# Altium integrated library Renesas Microprocessor SuperH.IntLib: 433 symbols (part 6 of 62)
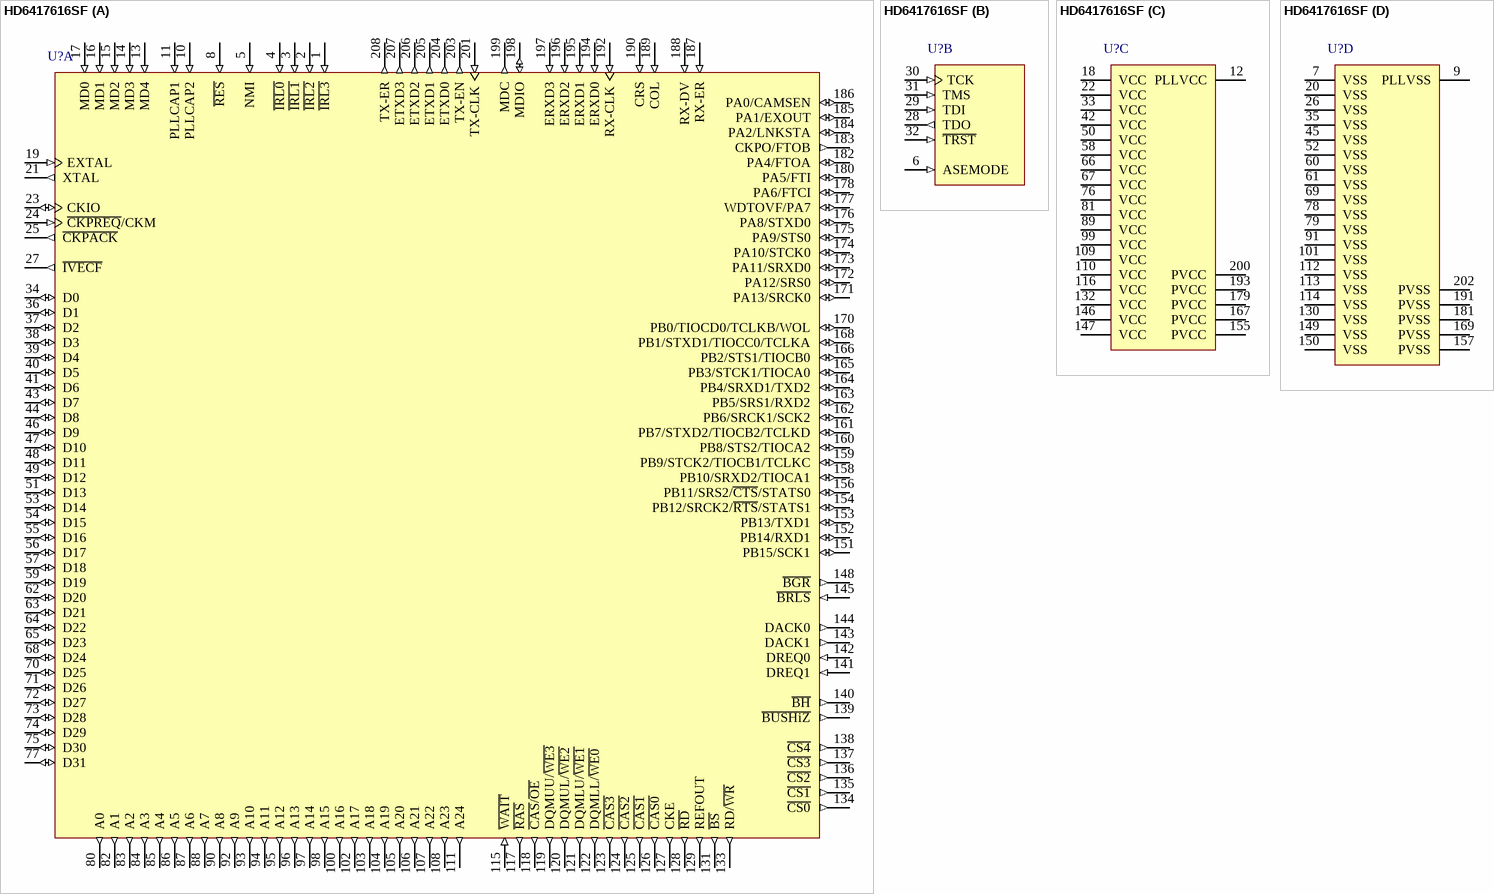
[diagram p282: symbol HD6417616SF]

## HD6417616SF
designator U?
32-Bit RISC Microcomputer, SH-Ether Series, SH2-DSP core, 62.5MHz, 8K RAM, 208-pin PLQFP, -20 to 75°C; Published: 28-Aug-2009; DatasheetVersion: Rev.2.00, Mar-2006; PackageVersion: Sep-2005; PackageReference: PLQP0208KA-A; Publisher: Altium Limited; PackageDescription: 208-Pin Plastic Low Profile QFP, 28 x 28 x 1.4 mm Body, 0.5 mm Pitch; Supplier 1: Digi-Key; Supplier Part Number 1: HD6417616SF-ND; Code_JEITA: P-LQFP208-28x28-0.50; ComponentLink1Description: Manufacturer Link; ComponentLink1URL: http://www.renesas.com/fmwk.jsp?cnt=sh7616_root.jsp&fp=/products/mpumcu/superh_family/shether_series/sh7616_group/; ComponentLink2Description: Datasheet; ComponentLink2URL: http://documentation.renesas.com/eng/products/mpumcu/rej09b0292_sh7616hm.pdf; ComponentLink3Description: Packaging Specification; ComponentLink3URL: http://sg.renesas.com/media/products/common_info/package/pdf/ic/code/plqp0208ka_a.pdf
footprint PLQP0208KA-A_N (Shrink QFP, 208-Leads, Body 28x28mm, Pitch 0.5mm, IPC Medium Density)
footprint PLQP0208KA-A_L (Shrink QFP, 208-Leads, Body 28x28mm, Pitch 0.5mm, IPC High Density)
footprint PLQP0208KA-A_M (Shrink QFP, 208-Leads, Body 28x28mm, Pitch 0.5mm, IPC Low Density)
part A pins: 1 ~{IRL3} (in), 2 ~{IRL2} (in), 3 ~{IRL1} (in), 4 ~{IRL0} (in), 5 NMI (in), 8 ~{RES} (in), 10 PLLCAP2 (in), 11 PLLCAP1 (in), 13 MD4 (in), 14 MD3 (in), 15 MD2 (in), 16 MD1 (in), 17 MD0 (in), 19 EXTAL (in), 21 XTAL (out), 23 CKIO (io), 24 ~{CKPREQ}/CKM (in), 25 ~{CKPACK} (out), 27 ~{IVECF} (out), 34 D0 (io), 36 D1 (io), 37 D2 (io), 38 D3 (io), 39 D4 (io), 40 D5 (io), 41 D6 (io), 43 D7 (io), 44 D8 (io), 46 D9 (io), 47 D10 (io), 48 D11 (io), 49 D12 (io), 51 D13 (io), 53 D14 (io), 54 D15 (io), 55 D16 (io), 56 D17 (io), 57 D18 (io), 59 D19 (io), 62 D20 (io), 63 D21 (io), 64 D22 (io), 65 D23 (io), 68 D24 (io), 70 D25 (io), 71 D26 (io), 72 D27 (io), 73 D28 (io), 74 D29 (io), 75 D30 (io), 77 D31 (io), 80 A0 (out), 82 A1 (out), 83 A2 (out), 84 A3 (out), 85 A4 (out), 86 A5 (out), 87 A6 (out), 88 A7 (out), 90 A8 (out), 92 A9 (out), 93 A10 (out), 94 A11 (out), 95 A12 (out), 96 A13 (out), 97 A14 (out), 98 A15 (out), 100 A16 (out), 102 A17 (out), 103 A18 (out), 104 A19 (out), 105 A20 (out), 106 A21 (out), 107 A22 (out), 108 A23 (out), 111 A24 (out), 115 ~{WAIT} (in), 117 ~{RAS} (out), 118 ~{CAS}/~{OE} (out), 119 DQMUU/~{WE3} (out), 120 DQMUL/~{WE2} (out), 121 DQMLU/~{WE1} (out), 122 DQMLL/~{WE0} (out), 123 ~{CAS3} (out), 124 ~{CAS2} (out), 125 ~{CAS1} (out), 126 ~{CAS0} (out), 127 CKE (out), 128 ~{RD} (out), 129 REFOUT (out), 131 ~{BS} (out), 133 RD/~{WR} (out), 134 ~{CS0} (out), 135 ~{CS1} (out), 136 ~{CS2} (out), 137 ~{CS3} (out), 138 ~{CS4} (out), 139 ~{BUSHiZ} (out), 140 ~{BH} (out), 141 DREQ1 (in), 142 DREQ0 (in), 143 DACK1 (out), 144 DACK0 (out), 145 ~{BRLS} (in), 148 ~{BGR} (out), 151 PB15/SCK1 (io), 152 PB14/RXD1 (io), 153 PB13/TXD1 (io), 154 PB12/SRCK2/~{RTS}/STATS1 (io), 156 PB11/SRS2/~{CTS}/STATS0 (io), 158 PB10/SRXD2/TIOCA1 (io), 159 PB9/STCK2/TIOCB1/TCLKC (io), 160 PB8/STS2/TIOCA2 (io), 161 PB7/STXD2/TIOCB2/TCLKD (io), 162 PB6/SRCK1/SCK2 (io), 163 PB5/SRS1/RXD2 (io), 164 PB4/SRXD1/TXD2 (io), 165 PB3/STCK1/TIOCA0 (io), 166 PB2/STS1/TIOCB0 (io), 168 PB1/STXD1/TIOCC0/TCLKA (io), 170 PB0/TIOCD0/TCLKB/WOL (io), 171 PA13/SRCK0 (io), 172 PA12/SRS0 (io), 173 PA11/SRXD0 (io), 174 PA10/STCK0 (io), 175 PA9/STS0 (io), 176 PA8/STXD0 (io), 177 WDTOVF/PA7 (io), 178 PA6/FTCI (io), 180 PA5/FTI (io), 182 PA4/FTOA (io), 183 CKPO/FTOB (out), 184 PA2/LNKSTA (io), 185 PA1/EXOUT (io), 186 PA0/CAMSEN (io), 187 RX-ER (in), 188 RX-DV (in), 189 COL (in), 190 CRS (in), 192 RX-CLK (in), 194 ERXD0 (in), 195 ERXD1 (in), 196 ERXD2 (in), 197 ERXD3 (in), 198 MDIO (io), 199 MDC (out), 201 TX-CLK (in), 203 TX-EN (out), 204 ETXD0 (out), 205 ETXD1 (out), 206 ETXD2 (out), 207 ETXD3 (out), 208 TX-ER (out)
part B pins: 6 ASEMODE (in), 28 TDO (out), 29 TDI (in), 30 TCK (in), 31 TMS (in), 32 ~{TRST} (in)
part C pins: 12 PLLVCC (power), 18 VCC (power), 22 VCC (power), 33 VCC (power), 42 VCC (power), 50 VCC (power), 58 VCC (power), 66 VCC (power), 67 VCC (power), 76 VCC (power), 81 VCC (power), 89 VCC (power), 99 VCC (power), 109 VCC (power), 110 VCC (power), 116 VCC (power), 132 VCC (power), 146 VCC (power), 147 VCC (power), 155 PVCC (power), 167 PVCC (power), 179 PVCC (power), 193 PVCC (power), 200 PVCC (power)
part D pins: 7 VSS (power), 9 PLLVSS (power), 20 VSS (power), 26 VSS (power), 35 VSS (power), 45 VSS (power), 52 VSS (power), 60 VSS (power), 61 VSS (power), 69 VSS (power), 78 VSS (power), 79 VSS (power), 91 VSS (power), 101 VSS (power), 112 VSS (power), 113 VSS (power), 114 VSS (power), 130 VSS (power), 149 VSS (power), 150 VSS (power), 157 PVSS (power), 169 PVSS (power), 181 PVSS (power), 191 PVSS (power), 202 PVSS (power)

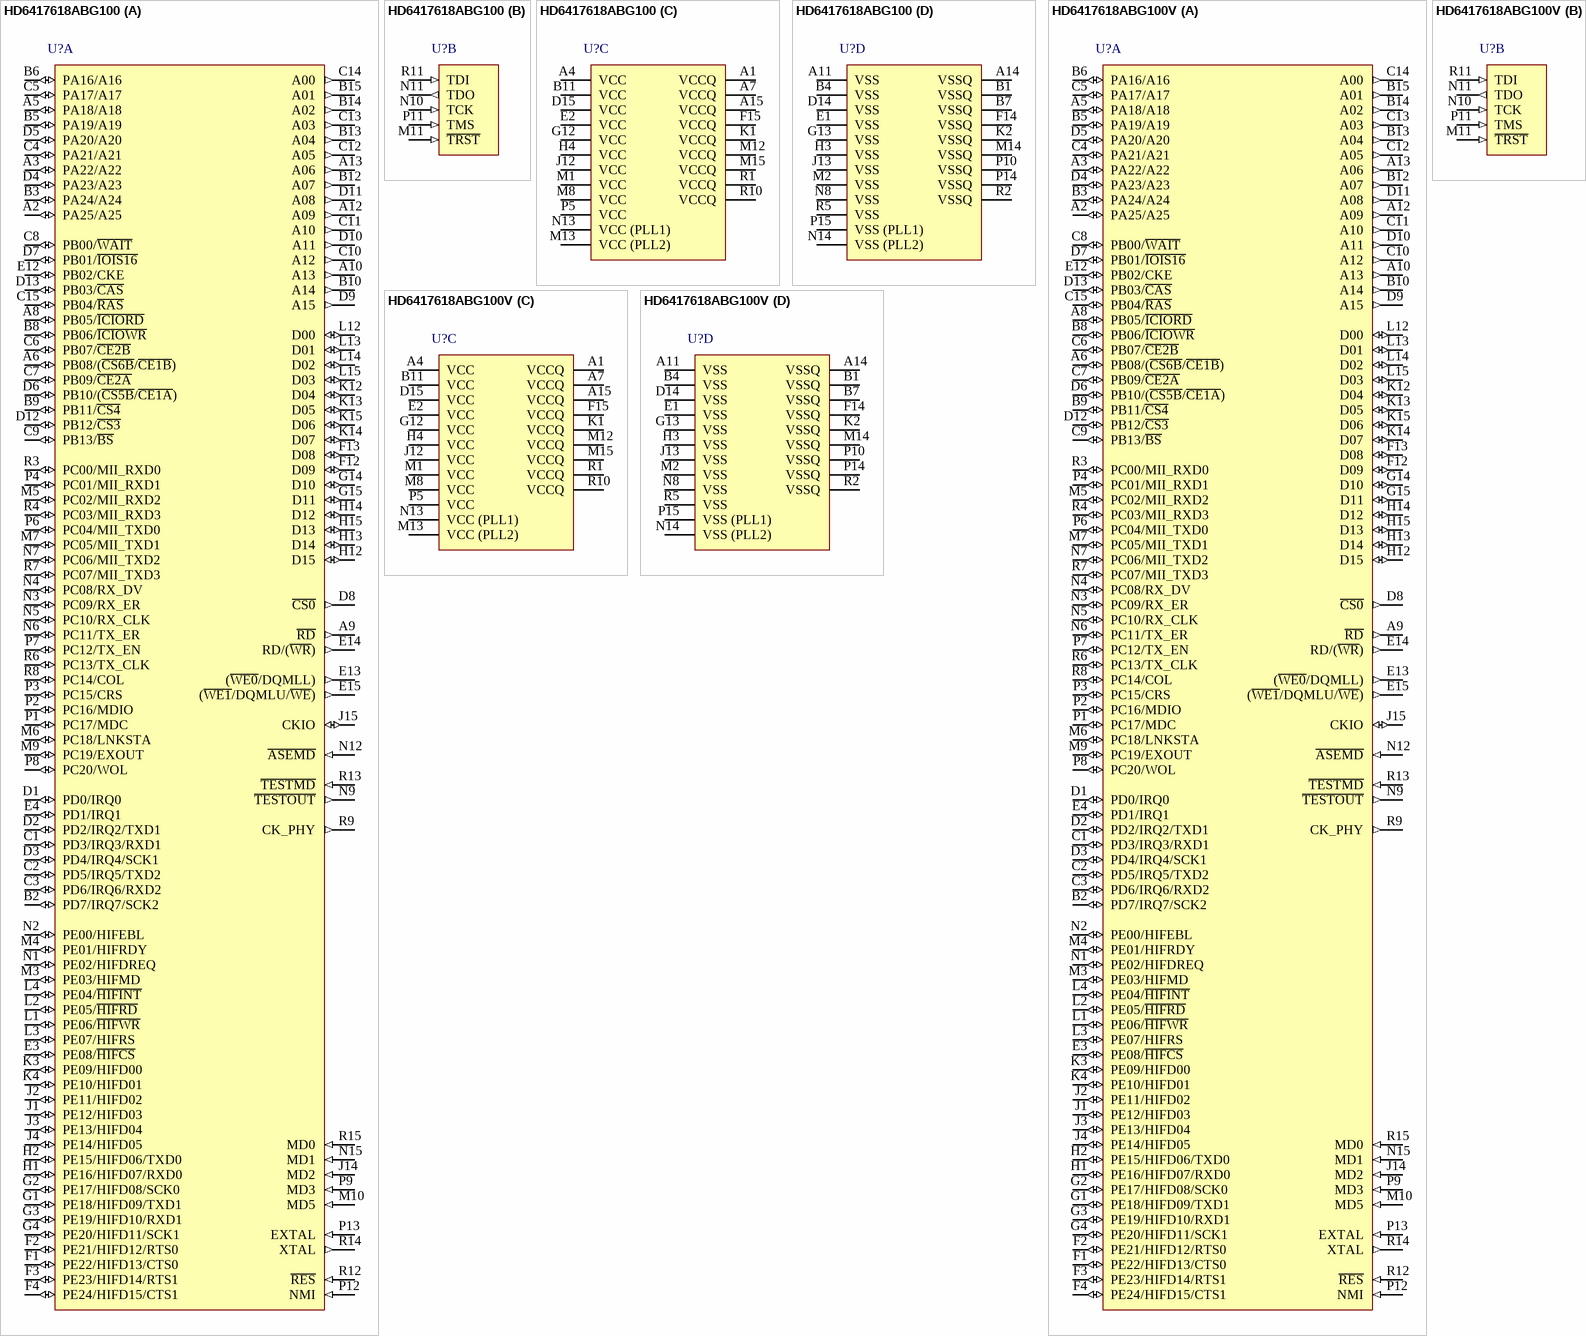
[diagram p20: symbols HD6417618ABG100 to HD6417618ABG100V]

## HD6417618ABG100
designator U?
32-Bit RISC Microcomputer, SH-Ether Series, SH-2 core, 100MHz, 4K RAM, PLBG0176GA-A (BP-176) Package, -20 to 75°C; Published: 28-Aug-2009; DatasheetVersion: Rev.6.00, Jun-2007; PackageVersion: Apr-2006; PackageReference: PLBG0176GA-A; Publisher: Altium Limited; PackageDescription: 176-Ball Plastic Low Profile Fine-Pitch BGA, 13 x 13 mm Body, 0.8 mm Pitch; Code_JEITA: P-LFBGA176-13x13-0.80; ComponentLink1Description: Manufacturer Link; ComponentLink1URL: http://www.renesas.com/fmwk.jsp?cnt=sh7618_root.jsp&fp=/products/mpumcu/superh_family/shether_series/sh7618_group/; ComponentLink2Description: Datasheet; ComponentLink2URL: http://documentation.renesas.com/eng/products/mpumcu/rej09b0131_sh7618.pdf; ComponentLink3Description: Packaging Specification; ComponentLink3URL: http://sg.renesas.com/media/products/common_info/package/pdf/ic/code/plbg0176ga_a.pdf
footprint PLBG0176GA-A (BGA, 176-Leads, Body 13x13mm, Pitch 0.8mm)
part A pins: A2 PA25/A25 (io), A3 PA22/A22 (io), A5 PA18/A18 (io), A6 PB08/(~{CS6B}/~{CE1B}) (io), A8 PB05/~{ICIORD} (io), A9 ~{RD} (out), A10 A13 (out), A12 A09 (out), A13 A06 (out), B2 PD7/IRQ7/SCK2 (io), B3 PA24/A24 (io), B5 PA19/A19 (io), B6 PA16/A16 (io), B8 PB06/~{ICIOWR} (io), B9 PB11/~{CS4} (io), B10 A14 (out), B12 A07 (out), B13 A04 (out), B14 A02 (out), B15 A01 (out), C1 PD3/IRQ3/RXD1 (io), C2 PD5/IRQ5/TXD2 (io), C3 PD6/IRQ6/RXD2 (io), C4 PA21/A21 (io), C5 PA17/A17 (io), C6 PB07/~{CE2B} (io), C7 PB09/~{CE2A} (io), C8 PB00/~{WAIT} (io), C9 PB13/~{BS} (io), C10 A12 (out), C11 A10 (out), C12 A05 (out), C13 A03 (out), C14 A00 (out), C15 PB04/~{RAS} (io), D1 PD0/IRQ0 (io), D2 PD2/IRQ2/TXD1 (io), D3 PD4/IRQ4/SCK1 (io), D4 PA23/A23 (io), D5 PA20/A20 (io), D6 PB10/(~{CS5B}/~{CE1A}) (io), D7 PB01/~{IOIS16} (io), D8 ~{CS0} (out), D9 A15 (out), D10 A11 (out), D11 A08 (out), D12 PB12/~{CS3} (io), D13 PB03/~{CAS} (io), E3 PE08/~{HIFCS} (io), E4 PD1/IRQ1 (io), E12 PB02/CKE (io), E13 (~{WE0}/DQMLL) (out), E14 RD/(~{WR}) (out), E15 (~{WE1}/DQMLU/~{WE}) (out), F1 PE22/HIFD13/CTS0 (io), F2 PE21/HIFD12/RTS0 (io), F3 PE23/HIFD14/RTS1 (io), F4 PE24/HIFD15/CTS1 (io), F12 D09 (io), F13 D08 (io), G1 PE18/HIFD09/TXD1 (io), G2 PE17/HIFD08/SCK0 (io), G3 PE19/HIFD10/RXD1 (io), G4 PE20/HIFD11/SCK1 (io), G14 D10 (io), G15 D11 (io), H1 PE16/HIFD07/RXD0 (io), H2 PE15/HIFD06/TXD0 (io), H12 D15 (io), H13 D14 (io), H14 D12 (io), H15 D13 (io), J1 PE12/HIFD03 (io), J2 PE11/HIFD02 (io), J3 PE13/HIFD04 (io), J4 PE14/HIFD05 (io), J14 MD2 (in), J15 CKIO (io), K3 PE09/HIFD00 (io), K4 PE10/HIFD01 (io), K12 D04 (io), K13 D05 (io), K14 D07 (io), K15 D06 (io), L1 PE06/~{HIFWR} (io), L2 PE05/~{HIFRD} (io), L3 PE07/HIFRS (io), L4 PE04/~{HIFINT} (io), L12 D00 (io), L13 D01 (io), L14 D02 (io), L15 D03 (io), M3 PE03/HIFMD (io), M4 PE01/HIFRDY (io), M5 PC02/MII_RXD2 (io), M6 PC18/LNKSTA (io), M7 PC05/MII_TXD1 (io), M9 PC19/EXOUT (io), M10 MD5 (in), N1 PE02/HIFDREQ (io), N2 PE00/HIFEBL (io), N3 PC09/RX_ER (io), N4 PC08/RX_DV (io), N5 PC10/RX_CLK (io), N6 PC11/TX_ER (io), N7 PC06/MII_TXD2 (io), N9 ~{TESTOUT} (out), N12 ~{ASEMD} (in), N15 MD1 (in), P1 PC17/MDC (io), P2 PC16/MDIO (io), P3 PC15/CRS (io), P4 PC01/MII_RXD1 (io), P6 PC04/MII_TXD0 (io), P7 PC12/TX_EN (io), P8 PC20/WOL (io), P9 MD3 (in), P12 NMI (in), P13 EXTAL (in), R3 PC00/MII_RXD0 (io), R4 PC03/MII_RXD3 (io), R6 PC13/TX_CLK (io), R7 PC07/MII_TXD3 (io), R8 PC14/COL (io), R9 CK_PHY (out), R12 ~{RES} (in), R13 ~{TESTMD} (in), R14 XTAL (out), R15 MD0 (in)
part B pins: M11 ~{TRST} (in), N10 TCK (in), N11 TDO (out), P11 TMS (in), R11 TDI (in)
part C pins: A1 VCCQ (power), A4 VCC (power), A7 VCCQ (power), A15 VCCQ (power), B11 VCC (power), D15 VCC (power), E2 VCC (power), F15 VCCQ (power), G12 VCC (power), H4 VCC (power), J12 VCC (power), K1 VCCQ (power), M1 VCC (power), M8 VCC (power), M12 VCCQ (power), M13 VCC (PLL2) (power), M15 VCCQ (power), N13 VCC (PLL1) (power), P5 VCC (power), R1 VCCQ (power), R10 VCCQ (power)
part D pins: A11 VSS (power), A14 VSSQ (power), B1 VSSQ (power), B4 VSS (power), B7 VSSQ (power), D14 VSS (power), E1 VSS (power), F14 VSSQ (power), G13 VSS (power), H3 VSS (power), J13 VSS (power), K2 VSSQ (power), M2 VSS (power), M14 VSSQ (power), N8 VSS (power), N14 VSS (PLL2) (power), P10 VSSQ (power), P14 VSSQ (power), P15 VSS (PLL1) (power), R2 VSSQ (power), R5 VSS (power)

## HD6417618ABG100V
designator U?
32-Bit RISC Microcomputer, SH-Ether Series, SH-2 core, 100MHz, 4K RAM, PLBG0176GA-A (BP-176V) Package, -20 to 75°C; Published: 28-Aug-2009; DatasheetVersion: Rev.6.00, Jun-2007; PackageVersion: Apr-2006; PackageReference: PLBG0176GA-A; Publisher: Altium Limited; PackageDescription: 176-Ball Plastic Low Profile Fine-Pitch BGA, 13 x 13 mm Body, 0.8 mm Pitch; Code_JEITA: P-LFBGA176-13x13-0.80; ComponentLink1Description: Manufacturer Link; ComponentLink1URL: http://www.renesas.com/fmwk.jsp?cnt=sh7618_root.jsp&fp=/products/mpumcu/superh_family/shether_series/sh7618_group/; ComponentLink2Description: Datasheet; ComponentLink2URL: http://documentation.renesas.com/eng/products/mpumcu/rej09b0131_sh7618.pdf; ComponentLink3Description: Packaging Specification; ComponentLink3URL: http://sg.renesas.com/media/products/common_info/package/pdf/ic/code/plbg0176ga_a.pdf
footprint PLBG0176GA-A (BGA, 176-Leads, Body 13x13mm, Pitch 0.8mm)
part A pins: A2 PA25/A25 (io), A3 PA22/A22 (io), A5 PA18/A18 (io), A6 PB08/(~{CS6B}/~{CE1B}) (io), A8 PB05/~{ICIORD} (io), A9 ~{RD} (out), A10 A13 (out), A12 A09 (out), A13 A06 (out), B2 PD7/IRQ7/SCK2 (io), B3 PA24/A24 (io), B5 PA19/A19 (io), B6 PA16/A16 (io), B8 PB06/~{ICIOWR} (io), B9 PB11/~{CS4} (io), B10 A14 (out), B12 A07 (out), B13 A04 (out), B14 A02 (out), B15 A01 (out), C1 PD3/IRQ3/RXD1 (io), C2 PD5/IRQ5/TXD2 (io), C3 PD6/IRQ6/RXD2 (io), C4 PA21/A21 (io), C5 PA17/A17 (io), C6 PB07/~{CE2B} (io), C7 PB09/~{CE2A} (io), C8 PB00/~{WAIT} (io), C9 PB13/~{BS} (io), C10 A12 (out), C11 A10 (out), C12 A05 (out), C13 A03 (out), C14 A00 (out), C15 PB04/~{RAS} (io), D1 PD0/IRQ0 (io), D2 PD2/IRQ2/TXD1 (io), D3 PD4/IRQ4/SCK1 (io), D4 PA23/A23 (io), D5 PA20/A20 (io), D6 PB10/(~{CS5B}/~{CE1A}) (io), D7 PB01/~{IOIS16} (io), D8 ~{CS0} (out), D9 A15 (out), D10 A11 (out), D11 A08 (out), D12 PB12/~{CS3} (io), D13 PB03/~{CAS} (io), E3 PE08/~{HIFCS} (io), E4 PD1/IRQ1 (io), E12 PB02/CKE (io), E13 (~{WE0}/DQMLL) (out), E14 RD/(~{WR}) (out), E15 (~{WE1}/DQMLU/~{WE}) (out), F1 PE22/HIFD13/CTS0 (io), F2 PE21/HIFD12/RTS0 (io), F3 PE23/HIFD14/RTS1 (io), F4 PE24/HIFD15/CTS1 (io), F12 D09 (io), F13 D08 (io), G1 PE18/HIFD09/TXD1 (io), G2 PE17/HIFD08/SCK0 (io), G3 PE19/HIFD10/RXD1 (io), G4 PE20/HIFD11/SCK1 (io), G14 D10 (io), G15 D11 (io), H1 PE16/HIFD07/RXD0 (io), H2 PE15/HIFD06/TXD0 (io), H12 D15 (io), H13 D14 (io), H14 D12 (io), H15 D13 (io), J1 PE12/HIFD03 (io), J2 PE11/HIFD02 (io), J3 PE13/HIFD04 (io), J4 PE14/HIFD05 (io), J14 MD2 (in), J15 CKIO (io), K3 PE09/HIFD00 (io), K4 PE10/HIFD01 (io), K12 D04 (io), K13 D05 (io), K14 D07 (io), K15 D06 (io), L1 PE06/~{HIFWR} (io), L2 PE05/~{HIFRD} (io), L3 PE07/HIFRS (io), L4 PE04/~{HIFINT} (io), L12 D00 (io), L13 D01 (io), L14 D02 (io), L15 D03 (io), M3 PE03/HIFMD (io), M4 PE01/HIFRDY (io), M5 PC02/MII_RXD2 (io), M6 PC18/LNKSTA (io), M7 PC05/MII_TXD1 (io), M9 PC19/EXOUT (io), M10 MD5 (in), N1 PE02/HIFDREQ (io), N2 PE00/HIFEBL (io), N3 PC09/RX_ER (io), N4 PC08/RX_DV (io), N5 PC10/RX_CLK (io), N6 PC11/TX_ER (io), N7 PC06/MII_TXD2 (io), N9 ~{TESTOUT} (out), N12 ~{ASEMD} (in), N15 MD1 (in), P1 PC17/MDC (io), P2 PC16/MDIO (io), P3 PC15/CRS (io), P4 PC01/MII_RXD1 (io), P6 PC04/MII_TXD0 (io), P7 PC12/TX_EN (io), P8 PC20/WOL (io), P9 MD3 (in), P12 NMI (in), P13 EXTAL (in), R3 PC00/MII_RXD0 (io), R4 PC03/MII_RXD3 (io), R6 PC13/TX_CLK (io), R7 PC07/MII_TXD3 (io), R8 PC14/COL (io), R9 CK_PHY (out), R12 ~{RES} (in), R13 ~{TESTMD} (in), R14 XTAL (out), R15 MD0 (in)
part B pins: M11 ~{TRST} (in), N10 TCK (in), N11 TDO (out), P11 TMS (in), R11 TDI (in)
part C pins: A1 VCCQ (power), A4 VCC (power), A7 VCCQ (power), A15 VCCQ (power), B11 VCC (power), D15 VCC (power), E2 VCC (power), F15 VCCQ (power), G12 VCC (power), H4 VCC (power), J12 VCC (power), K1 VCCQ (power), M1 VCC (power), M8 VCC (power), M12 VCCQ (power), M13 VCC (PLL2) (power), M15 VCCQ (power), N13 VCC (PLL1) (power), P5 VCC (power), R1 VCCQ (power), R10 VCCQ (power)
part D pins: A11 VSS (power), A14 VSSQ (power), B1 VSSQ (power), B4 VSS (power), B7 VSSQ (power), D14 VSS (power), E1 VSS (power), F14 VSSQ (power), G13 VSS (power), H3 VSS (power), J13 VSS (power), K2 VSSQ (power), M2 VSS (power), M14 VSSQ (power), N8 VSS (power), N14 VSS (PLL2) (power), P10 VSSQ (power), P14 VSSQ (power), P15 VSS (PLL1) (power), R2 VSSQ (power), R5 VSS (power)

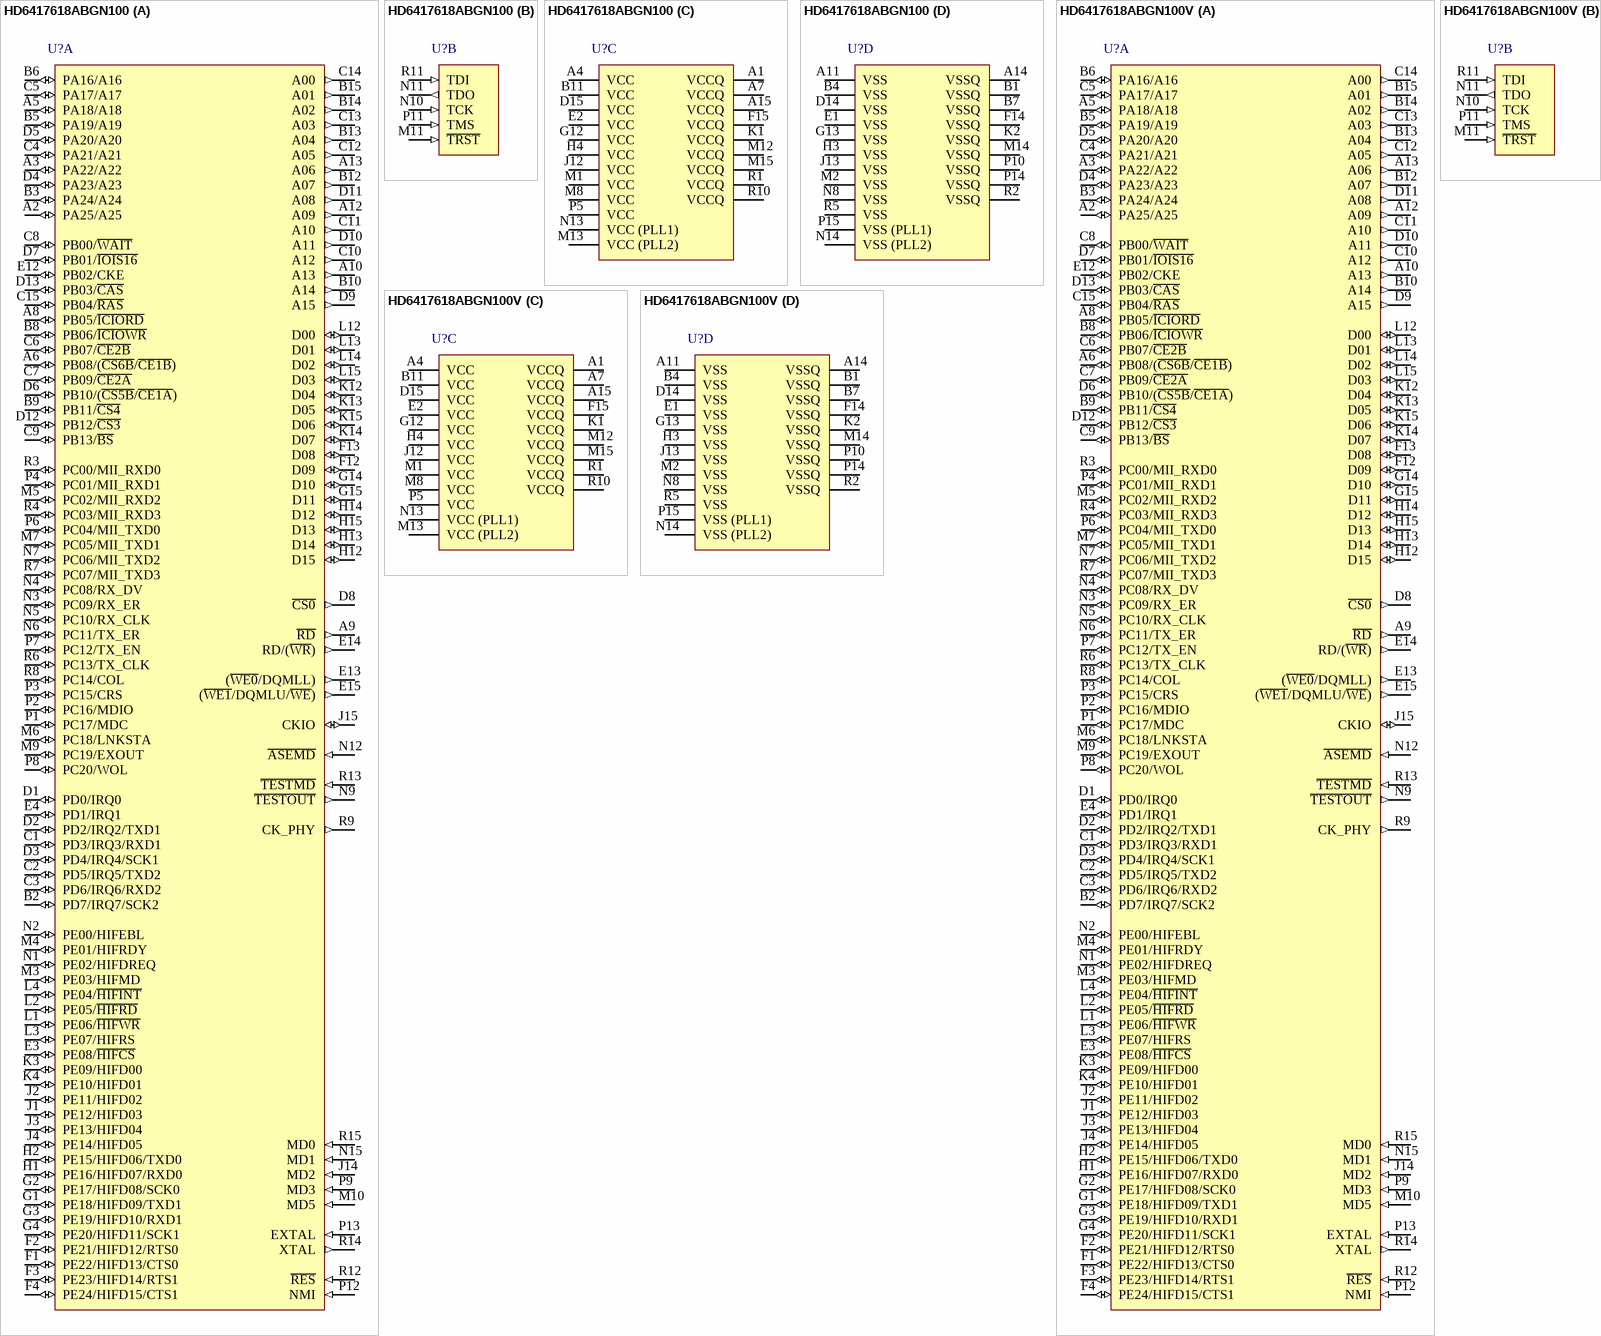
[diagram p21: symbols HD6417618ABGN100 to HD6417618ABGN100V]

## HD6417618ABGN100
designator U?
32-Bit RISC Microcomputer, SH-Ether Series, SH-2 core, 100MHz, 4K RAM, PLBG0176GA-A (BP-176) Package, -20 to 75°C; Published: 28-Aug-2009; DatasheetVersion: Rev.6.00, Jun-2007; PackageVersion: Apr-2006; PackageReference: PLBG0176GA-A; Publisher: Altium Limited; PackageDescription: 176-Ball Plastic Low Profile Fine-Pitch BGA, 13 x 13 mm Body, 0.8 mm Pitch; Code_JEITA: P-LFBGA176-13x13-0.80; ComponentLink1Description: Manufacturer Link; ComponentLink1URL: http://www.renesas.com/fmwk.jsp?cnt=sh7618_root.jsp&fp=/products/mpumcu/superh_family/shether_series/sh7618_group/; ComponentLink2Description: Datasheet; ComponentLink2URL: http://documentation.renesas.com/eng/products/mpumcu/rej09b0131_sh7618.pdf; ComponentLink3Description: Packaging Specification; ComponentLink3URL: http://sg.renesas.com/media/products/common_info/package/pdf/ic/code/plbg0176ga_a.pdf
footprint PLBG0176GA-A (BGA, 176-Leads, Body 13x13mm, Pitch 0.8mm)
part A pins: A2 PA25/A25 (io), A3 PA22/A22 (io), A5 PA18/A18 (io), A6 PB08/(~{CS6B}/~{CE1B}) (io), A8 PB05/~{ICIORD} (io), A9 ~{RD} (out), A10 A13 (out), A12 A09 (out), A13 A06 (out), B2 PD7/IRQ7/SCK2 (io), B3 PA24/A24 (io), B5 PA19/A19 (io), B6 PA16/A16 (io), B8 PB06/~{ICIOWR} (io), B9 PB11/~{CS4} (io), B10 A14 (out), B12 A07 (out), B13 A04 (out), B14 A02 (out), B15 A01 (out), C1 PD3/IRQ3/RXD1 (io), C2 PD5/IRQ5/TXD2 (io), C3 PD6/IRQ6/RXD2 (io), C4 PA21/A21 (io), C5 PA17/A17 (io), C6 PB07/~{CE2B} (io), C7 PB09/~{CE2A} (io), C8 PB00/~{WAIT} (io), C9 PB13/~{BS} (io), C10 A12 (out), C11 A10 (out), C12 A05 (out), C13 A03 (out), C14 A00 (out), C15 PB04/~{RAS} (io), D1 PD0/IRQ0 (io), D2 PD2/IRQ2/TXD1 (io), D3 PD4/IRQ4/SCK1 (io), D4 PA23/A23 (io), D5 PA20/A20 (io), D6 PB10/(~{CS5B}/~{CE1A}) (io), D7 PB01/~{IOIS16} (io), D8 ~{CS0} (out), D9 A15 (out), D10 A11 (out), D11 A08 (out), D12 PB12/~{CS3} (io), D13 PB03/~{CAS} (io), E3 PE08/~{HIFCS} (io), E4 PD1/IRQ1 (io), E12 PB02/CKE (io), E13 (~{WE0}/DQMLL) (out), E14 RD/(~{WR}) (out), E15 (~{WE1}/DQMLU/~{WE}) (out), F1 PE22/HIFD13/CTS0 (io), F2 PE21/HIFD12/RTS0 (io), F3 PE23/HIFD14/RTS1 (io), F4 PE24/HIFD15/CTS1 (io), F12 D09 (io), F13 D08 (io), G1 PE18/HIFD09/TXD1 (io), G2 PE17/HIFD08/SCK0 (io), G3 PE19/HIFD10/RXD1 (io), G4 PE20/HIFD11/SCK1 (io), G14 D10 (io), G15 D11 (io), H1 PE16/HIFD07/RXD0 (io), H2 PE15/HIFD06/TXD0 (io), H12 D15 (io), H13 D14 (io), H14 D12 (io), H15 D13 (io), J1 PE12/HIFD03 (io), J2 PE11/HIFD02 (io), J3 PE13/HIFD04 (io), J4 PE14/HIFD05 (io), J14 MD2 (in), J15 CKIO (io), K3 PE09/HIFD00 (io), K4 PE10/HIFD01 (io), K12 D04 (io), K13 D05 (io), K14 D07 (io), K15 D06 (io), L1 PE06/~{HIFWR} (io), L2 PE05/~{HIFRD} (io), L3 PE07/HIFRS (io), L4 PE04/~{HIFINT} (io), L12 D00 (io), L13 D01 (io), L14 D02 (io), L15 D03 (io), M3 PE03/HIFMD (io), M4 PE01/HIFRDY (io), M5 PC02/MII_RXD2 (io), M6 PC18/LNKSTA (io), M7 PC05/MII_TXD1 (io), M9 PC19/EXOUT (io), M10 MD5 (in), N1 PE02/HIFDREQ (io), N2 PE00/HIFEBL (io), N3 PC09/RX_ER (io), N4 PC08/RX_DV (io), N5 PC10/RX_CLK (io), N6 PC11/TX_ER (io), N7 PC06/MII_TXD2 (io), N9 ~{TESTOUT} (out), N12 ~{ASEMD} (in), N15 MD1 (in), P1 PC17/MDC (io), P2 PC16/MDIO (io), P3 PC15/CRS (io), P4 PC01/MII_RXD1 (io), P6 PC04/MII_TXD0 (io), P7 PC12/TX_EN (io), P8 PC20/WOL (io), P9 MD3 (in), P12 NMI (in), P13 EXTAL (in), R3 PC00/MII_RXD0 (io), R4 PC03/MII_RXD3 (io), R6 PC13/TX_CLK (io), R7 PC07/MII_TXD3 (io), R8 PC14/COL (io), R9 CK_PHY (out), R12 ~{RES} (in), R13 ~{TESTMD} (in), R14 XTAL (out), R15 MD0 (in)
part B pins: M11 ~{TRST} (in), N10 TCK (in), N11 TDO (out), P11 TMS (in), R11 TDI (in)
part C pins: A1 VCCQ (power), A4 VCC (power), A7 VCCQ (power), A15 VCCQ (power), B11 VCC (power), D15 VCC (power), E2 VCC (power), F15 VCCQ (power), G12 VCC (power), H4 VCC (power), J12 VCC (power), K1 VCCQ (power), M1 VCC (power), M8 VCC (power), M12 VCCQ (power), M13 VCC (PLL2) (power), M15 VCCQ (power), N13 VCC (PLL1) (power), P5 VCC (power), R1 VCCQ (power), R10 VCCQ (power)
part D pins: A11 VSS (power), A14 VSSQ (power), B1 VSSQ (power), B4 VSS (power), B7 VSSQ (power), D14 VSS (power), E1 VSS (power), F14 VSSQ (power), G13 VSS (power), H3 VSS (power), J13 VSS (power), K2 VSSQ (power), M2 VSS (power), M14 VSSQ (power), N8 VSS (power), N14 VSS (PLL2) (power), P10 VSSQ (power), P14 VSSQ (power), P15 VSS (PLL1) (power), R2 VSSQ (power), R5 VSS (power)

## HD6417618ABGN100V
designator U?
32-Bit RISC Microcomputer, SH-Ether Series, SH-2 core, 100MHz, 4K RAM, PLBG0176GA-A (BP-176V) Package, -20 to 75°C; Published: 28-Aug-2009; DatasheetVersion: Rev.6.00, Jun-2007; PackageVersion: Apr-2006; PackageReference: PLBG0176GA-A; Publisher: Altium Limited; PackageDescription: 176-Ball Plastic Low Profile Fine-Pitch BGA, 13 x 13 mm Body, 0.8 mm Pitch; Code_JEITA: P-LFBGA176-13x13-0.80; ComponentLink1Description: Manufacturer Link; ComponentLink1URL: http://www.renesas.com/fmwk.jsp?cnt=sh7618_root.jsp&fp=/products/mpumcu/superh_family/shether_series/sh7618_group/; ComponentLink2Description: Datasheet; ComponentLink2URL: http://documentation.renesas.com/eng/products/mpumcu/rej09b0131_sh7618.pdf; ComponentLink3Description: Packaging Specification; ComponentLink3URL: http://sg.renesas.com/media/products/common_info/package/pdf/ic/code/plbg0176ga_a.pdf
footprint PLBG0176GA-A (BGA, 176-Leads, Body 13x13mm, Pitch 0.8mm)
part A pins: A2 PA25/A25 (io), A3 PA22/A22 (io), A5 PA18/A18 (io), A6 PB08/(~{CS6B}/~{CE1B}) (io), A8 PB05/~{ICIORD} (io), A9 ~{RD} (out), A10 A13 (out), A12 A09 (out), A13 A06 (out), B2 PD7/IRQ7/SCK2 (io), B3 PA24/A24 (io), B5 PA19/A19 (io), B6 PA16/A16 (io), B8 PB06/~{ICIOWR} (io), B9 PB11/~{CS4} (io), B10 A14 (out), B12 A07 (out), B13 A04 (out), B14 A02 (out), B15 A01 (out), C1 PD3/IRQ3/RXD1 (io), C2 PD5/IRQ5/TXD2 (io), C3 PD6/IRQ6/RXD2 (io), C4 PA21/A21 (io), C5 PA17/A17 (io), C6 PB07/~{CE2B} (io), C7 PB09/~{CE2A} (io), C8 PB00/~{WAIT} (io), C9 PB13/~{BS} (io), C10 A12 (out), C11 A10 (out), C12 A05 (out), C13 A03 (out), C14 A00 (out), C15 PB04/~{RAS} (io), D1 PD0/IRQ0 (io), D2 PD2/IRQ2/TXD1 (io), D3 PD4/IRQ4/SCK1 (io), D4 PA23/A23 (io), D5 PA20/A20 (io), D6 PB10/(~{CS5B}/~{CE1A}) (io), D7 PB01/~{IOIS16} (io), D8 ~{CS0} (out), D9 A15 (out), D10 A11 (out), D11 A08 (out), D12 PB12/~{CS3} (io), D13 PB03/~{CAS} (io), E3 PE08/~{HIFCS} (io), E4 PD1/IRQ1 (io), E12 PB02/CKE (io), E13 (~{WE0}/DQMLL) (out), E14 RD/(~{WR}) (out), E15 (~{WE1}/DQMLU/~{WE}) (out), F1 PE22/HIFD13/CTS0 (io), F2 PE21/HIFD12/RTS0 (io), F3 PE23/HIFD14/RTS1 (io), F4 PE24/HIFD15/CTS1 (io), F12 D09 (io), F13 D08 (io), G1 PE18/HIFD09/TXD1 (io), G2 PE17/HIFD08/SCK0 (io), G3 PE19/HIFD10/RXD1 (io), G4 PE20/HIFD11/SCK1 (io), G14 D10 (io), G15 D11 (io), H1 PE16/HIFD07/RXD0 (io), H2 PE15/HIFD06/TXD0 (io), H12 D15 (io), H13 D14 (io), H14 D12 (io), H15 D13 (io), J1 PE12/HIFD03 (io), J2 PE11/HIFD02 (io), J3 PE13/HIFD04 (io), J4 PE14/HIFD05 (io), J14 MD2 (in), J15 CKIO (io), K3 PE09/HIFD00 (io), K4 PE10/HIFD01 (io), K12 D04 (io), K13 D05 (io), K14 D07 (io), K15 D06 (io), L1 PE06/~{HIFWR} (io), L2 PE05/~{HIFRD} (io), L3 PE07/HIFRS (io), L4 PE04/~{HIFINT} (io), L12 D00 (io), L13 D01 (io), L14 D02 (io), L15 D03 (io), M3 PE03/HIFMD (io), M4 PE01/HIFRDY (io), M5 PC02/MII_RXD2 (io), M6 PC18/LNKSTA (io), M7 PC05/MII_TXD1 (io), M9 PC19/EXOUT (io), M10 MD5 (in), N1 PE02/HIFDREQ (io), N2 PE00/HIFEBL (io), N3 PC09/RX_ER (io), N4 PC08/RX_DV (io), N5 PC10/RX_CLK (io), N6 PC11/TX_ER (io), N7 PC06/MII_TXD2 (io), N9 ~{TESTOUT} (out), N12 ~{ASEMD} (in), N15 MD1 (in), P1 PC17/MDC (io), P2 PC16/MDIO (io), P3 PC15/CRS (io), P4 PC01/MII_RXD1 (io), P6 PC04/MII_TXD0 (io), P7 PC12/TX_EN (io), P8 PC20/WOL (io), P9 MD3 (in), P12 NMI (in), P13 EXTAL (in), R3 PC00/MII_RXD0 (io), R4 PC03/MII_RXD3 (io), R6 PC13/TX_CLK (io), R7 PC07/MII_TXD3 (io), R8 PC14/COL (io), R9 CK_PHY (out), R12 ~{RES} (in), R13 ~{TESTMD} (in), R14 XTAL (out), R15 MD0 (in)
part B pins: M11 ~{TRST} (in), N10 TCK (in), N11 TDO (out), P11 TMS (in), R11 TDI (in)
part C pins: A1 VCCQ (power), A4 VCC (power), A7 VCCQ (power), A15 VCCQ (power), B11 VCC (power), D15 VCC (power), E2 VCC (power), F15 VCCQ (power), G12 VCC (power), H4 VCC (power), J12 VCC (power), K1 VCCQ (power), M1 VCC (power), M8 VCC (power), M12 VCCQ (power), M13 VCC (PLL2) (power), M15 VCCQ (power), N13 VCC (PLL1) (power), P5 VCC (power), R1 VCCQ (power), R10 VCCQ (power)
part D pins: A11 VSS (power), A14 VSSQ (power), B1 VSSQ (power), B4 VSS (power), B7 VSSQ (power), D14 VSS (power), E1 VSS (power), F14 VSSQ (power), G13 VSS (power), H3 VSS (power), J13 VSS (power), K2 VSSQ (power), M2 VSS (power), M14 VSSQ (power), N8 VSS (power), N14 VSS (PLL2) (power), P10 VSSQ (power), P14 VSSQ (power), P15 VSS (PLL1) (power), R2 VSSQ (power), R5 VSS (power)

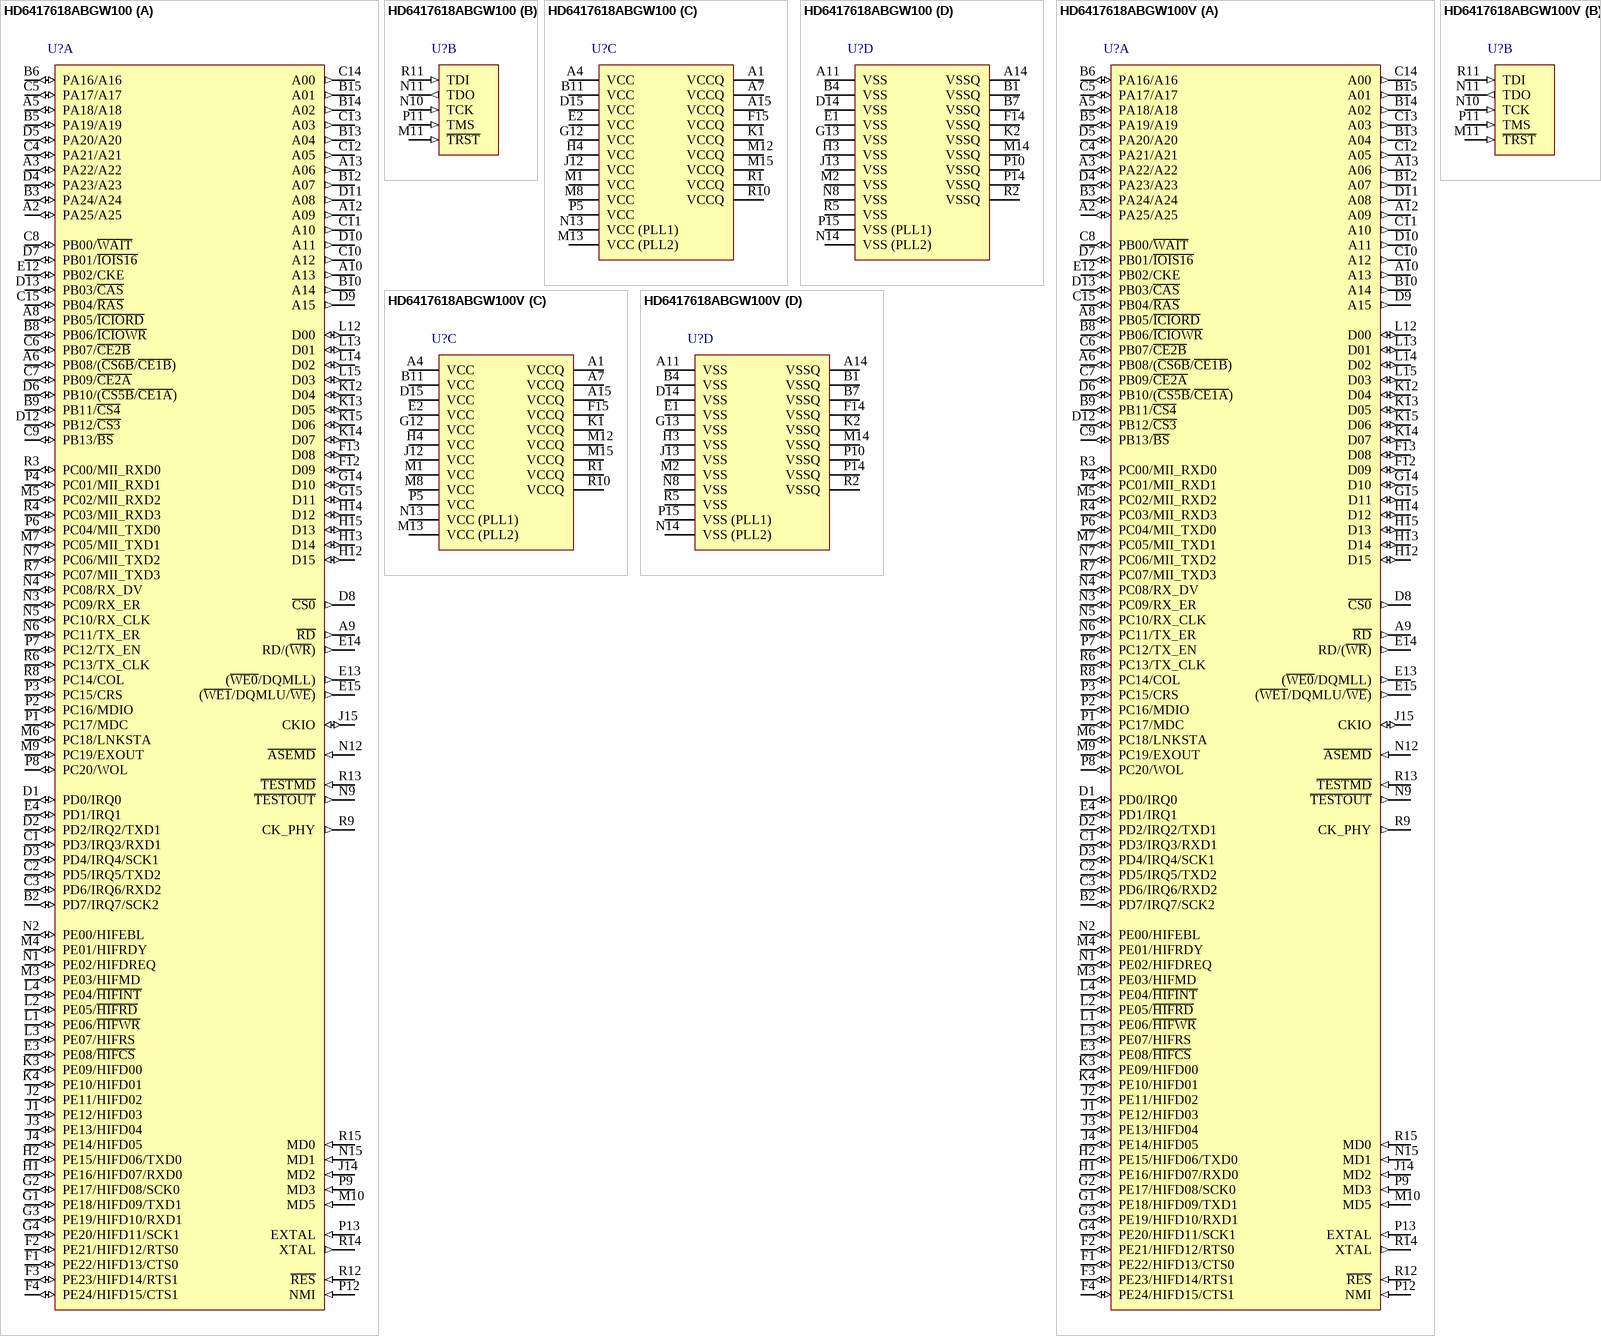
[diagram p22: symbols HD6417618ABGW100 to HD6417618ABGW100V]

## HD6417618ABGW100
designator U?
32-Bit RISC Microcomputer, SH-Ether Series, SH-2 core, 100MHz, 4K RAM, PLBG0176GA-A (BP-176) Package, -40 to 85°C; Published: 28-Aug-2009; DatasheetVersion: Rev.6.00, Jun-2007; PackageVersion: Apr-2006; PackageReference: PLBG0176GA-A; Publisher: Altium Limited; PackageDescription: 176-Ball Plastic Low Profile Fine-Pitch BGA, 13 x 13 mm Body, 0.8 mm Pitch; Code_JEITA: P-LFBGA176-13x13-0.80; ComponentLink1Description: Manufacturer Link; ComponentLink1URL: http://www.renesas.com/fmwk.jsp?cnt=sh7618_root.jsp&fp=/products/mpumcu/superh_family/shether_series/sh7618_group/; ComponentLink2Description: Datasheet; ComponentLink2URL: http://documentation.renesas.com/eng/products/mpumcu/rej09b0131_sh7618.pdf; ComponentLink3Description: Packaging Specification; ComponentLink3URL: http://sg.renesas.com/media/products/common_info/package/pdf/ic/code/plbg0176ga_a.pdf
footprint PLBG0176GA-A (BGA, 176-Leads, Body 13x13mm, Pitch 0.8mm)
part A pins: A2 PA25/A25 (io), A3 PA22/A22 (io), A5 PA18/A18 (io), A6 PB08/(~{CS6B}/~{CE1B}) (io), A8 PB05/~{ICIORD} (io), A9 ~{RD} (out), A10 A13 (out), A12 A09 (out), A13 A06 (out), B2 PD7/IRQ7/SCK2 (io), B3 PA24/A24 (io), B5 PA19/A19 (io), B6 PA16/A16 (io), B8 PB06/~{ICIOWR} (io), B9 PB11/~{CS4} (io), B10 A14 (out), B12 A07 (out), B13 A04 (out), B14 A02 (out), B15 A01 (out), C1 PD3/IRQ3/RXD1 (io), C2 PD5/IRQ5/TXD2 (io), C3 PD6/IRQ6/RXD2 (io), C4 PA21/A21 (io), C5 PA17/A17 (io), C6 PB07/~{CE2B} (io), C7 PB09/~{CE2A} (io), C8 PB00/~{WAIT} (io), C9 PB13/~{BS} (io), C10 A12 (out), C11 A10 (out), C12 A05 (out), C13 A03 (out), C14 A00 (out), C15 PB04/~{RAS} (io), D1 PD0/IRQ0 (io), D2 PD2/IRQ2/TXD1 (io), D3 PD4/IRQ4/SCK1 (io), D4 PA23/A23 (io), D5 PA20/A20 (io), D6 PB10/(~{CS5B}/~{CE1A}) (io), D7 PB01/~{IOIS16} (io), D8 ~{CS0} (out), D9 A15 (out), D10 A11 (out), D11 A08 (out), D12 PB12/~{CS3} (io), D13 PB03/~{CAS} (io), E3 PE08/~{HIFCS} (io), E4 PD1/IRQ1 (io), E12 PB02/CKE (io), E13 (~{WE0}/DQMLL) (out), E14 RD/(~{WR}) (out), E15 (~{WE1}/DQMLU/~{WE}) (out), F1 PE22/HIFD13/CTS0 (io), F2 PE21/HIFD12/RTS0 (io), F3 PE23/HIFD14/RTS1 (io), F4 PE24/HIFD15/CTS1 (io), F12 D09 (io), F13 D08 (io), G1 PE18/HIFD09/TXD1 (io), G2 PE17/HIFD08/SCK0 (io), G3 PE19/HIFD10/RXD1 (io), G4 PE20/HIFD11/SCK1 (io), G14 D10 (io), G15 D11 (io), H1 PE16/HIFD07/RXD0 (io), H2 PE15/HIFD06/TXD0 (io), H12 D15 (io), H13 D14 (io), H14 D12 (io), H15 D13 (io), J1 PE12/HIFD03 (io), J2 PE11/HIFD02 (io), J3 PE13/HIFD04 (io), J4 PE14/HIFD05 (io), J14 MD2 (in), J15 CKIO (io), K3 PE09/HIFD00 (io), K4 PE10/HIFD01 (io), K12 D04 (io), K13 D05 (io), K14 D07 (io), K15 D06 (io), L1 PE06/~{HIFWR} (io), L2 PE05/~{HIFRD} (io), L3 PE07/HIFRS (io), L4 PE04/~{HIFINT} (io), L12 D00 (io), L13 D01 (io), L14 D02 (io), L15 D03 (io), M3 PE03/HIFMD (io), M4 PE01/HIFRDY (io), M5 PC02/MII_RXD2 (io), M6 PC18/LNKSTA (io), M7 PC05/MII_TXD1 (io), M9 PC19/EXOUT (io), M10 MD5 (in), N1 PE02/HIFDREQ (io), N2 PE00/HIFEBL (io), N3 PC09/RX_ER (io), N4 PC08/RX_DV (io), N5 PC10/RX_CLK (io), N6 PC11/TX_ER (io), N7 PC06/MII_TXD2 (io), N9 ~{TESTOUT} (out), N12 ~{ASEMD} (in), N15 MD1 (in), P1 PC17/MDC (io), P2 PC16/MDIO (io), P3 PC15/CRS (io), P4 PC01/MII_RXD1 (io), P6 PC04/MII_TXD0 (io), P7 PC12/TX_EN (io), P8 PC20/WOL (io), P9 MD3 (in), P12 NMI (in), P13 EXTAL (in), R3 PC00/MII_RXD0 (io), R4 PC03/MII_RXD3 (io), R6 PC13/TX_CLK (io), R7 PC07/MII_TXD3 (io), R8 PC14/COL (io), R9 CK_PHY (out), R12 ~{RES} (in), R13 ~{TESTMD} (in), R14 XTAL (out), R15 MD0 (in)
part B pins: M11 ~{TRST} (in), N10 TCK (in), N11 TDO (out), P11 TMS (in), R11 TDI (in)
part C pins: A1 VCCQ (power), A4 VCC (power), A7 VCCQ (power), A15 VCCQ (power), B11 VCC (power), D15 VCC (power), E2 VCC (power), F15 VCCQ (power), G12 VCC (power), H4 VCC (power), J12 VCC (power), K1 VCCQ (power), M1 VCC (power), M8 VCC (power), M12 VCCQ (power), M13 VCC (PLL2) (power), M15 VCCQ (power), N13 VCC (PLL1) (power), P5 VCC (power), R1 VCCQ (power), R10 VCCQ (power)
part D pins: A11 VSS (power), A14 VSSQ (power), B1 VSSQ (power), B4 VSS (power), B7 VSSQ (power), D14 VSS (power), E1 VSS (power), F14 VSSQ (power), G13 VSS (power), H3 VSS (power), J13 VSS (power), K2 VSSQ (power), M2 VSS (power), M14 VSSQ (power), N8 VSS (power), N14 VSS (PLL2) (power), P10 VSSQ (power), P14 VSSQ (power), P15 VSS (PLL1) (power), R2 VSSQ (power), R5 VSS (power)

## HD6417618ABGW100V
designator U?
32-Bit RISC Microcomputer, SH-Ether Series, SH-2 core, 100MHz, 4K RAM, PLBG0176GA-A (BP-176V) Package, -40 to 85°C; Published: 28-Aug-2009; DatasheetVersion: Rev.6.00, Jun-2007; PackageVersion: Apr-2006; PackageReference: PLBG0176GA-A; Publisher: Altium Limited; PackageDescription: 176-Ball Plastic Low Profile Fine-Pitch BGA, 13 x 13 mm Body, 0.8 mm Pitch; Code_JEITA: P-LFBGA176-13x13-0.80; ComponentLink1Description: Manufacturer Link; ComponentLink1URL: http://www.renesas.com/fmwk.jsp?cnt=sh7618_root.jsp&fp=/products/mpumcu/superh_family/shether_series/sh7618_group/; ComponentLink2Description: Datasheet; ComponentLink2URL: http://documentation.renesas.com/eng/products/mpumcu/rej09b0131_sh7618.pdf; ComponentLink3Description: Packaging Specification; ComponentLink3URL: http://sg.renesas.com/media/products/common_info/package/pdf/ic/code/plbg0176ga_a.pdf
footprint PLBG0176GA-A (BGA, 176-Leads, Body 13x13mm, Pitch 0.8mm)
part A pins: A2 PA25/A25 (io), A3 PA22/A22 (io), A5 PA18/A18 (io), A6 PB08/(~{CS6B}/~{CE1B}) (io), A8 PB05/~{ICIORD} (io), A9 ~{RD} (out), A10 A13 (out), A12 A09 (out), A13 A06 (out), B2 PD7/IRQ7/SCK2 (io), B3 PA24/A24 (io), B5 PA19/A19 (io), B6 PA16/A16 (io), B8 PB06/~{ICIOWR} (io), B9 PB11/~{CS4} (io), B10 A14 (out), B12 A07 (out), B13 A04 (out), B14 A02 (out), B15 A01 (out), C1 PD3/IRQ3/RXD1 (io), C2 PD5/IRQ5/TXD2 (io), C3 PD6/IRQ6/RXD2 (io), C4 PA21/A21 (io), C5 PA17/A17 (io), C6 PB07/~{CE2B} (io), C7 PB09/~{CE2A} (io), C8 PB00/~{WAIT} (io), C9 PB13/~{BS} (io), C10 A12 (out), C11 A10 (out), C12 A05 (out), C13 A03 (out), C14 A00 (out), C15 PB04/~{RAS} (io), D1 PD0/IRQ0 (io), D2 PD2/IRQ2/TXD1 (io), D3 PD4/IRQ4/SCK1 (io), D4 PA23/A23 (io), D5 PA20/A20 (io), D6 PB10/(~{CS5B}/~{CE1A}) (io), D7 PB01/~{IOIS16} (io), D8 ~{CS0} (out), D9 A15 (out), D10 A11 (out), D11 A08 (out), D12 PB12/~{CS3} (io), D13 PB03/~{CAS} (io), E3 PE08/~{HIFCS} (io), E4 PD1/IRQ1 (io), E12 PB02/CKE (io), E13 (~{WE0}/DQMLL) (out), E14 RD/(~{WR}) (out), E15 (~{WE1}/DQMLU/~{WE}) (out), F1 PE22/HIFD13/CTS0 (io), F2 PE21/HIFD12/RTS0 (io), F3 PE23/HIFD14/RTS1 (io), F4 PE24/HIFD15/CTS1 (io), F12 D09 (io), F13 D08 (io), G1 PE18/HIFD09/TXD1 (io), G2 PE17/HIFD08/SCK0 (io), G3 PE19/HIFD10/RXD1 (io), G4 PE20/HIFD11/SCK1 (io), G14 D10 (io), G15 D11 (io), H1 PE16/HIFD07/RXD0 (io), H2 PE15/HIFD06/TXD0 (io), H12 D15 (io), H13 D14 (io), H14 D12 (io), H15 D13 (io), J1 PE12/HIFD03 (io), J2 PE11/HIFD02 (io), J3 PE13/HIFD04 (io), J4 PE14/HIFD05 (io), J14 MD2 (in), J15 CKIO (io), K3 PE09/HIFD00 (io), K4 PE10/HIFD01 (io), K12 D04 (io), K13 D05 (io), K14 D07 (io), K15 D06 (io), L1 PE06/~{HIFWR} (io), L2 PE05/~{HIFRD} (io), L3 PE07/HIFRS (io), L4 PE04/~{HIFINT} (io), L12 D00 (io), L13 D01 (io), L14 D02 (io), L15 D03 (io), M3 PE03/HIFMD (io), M4 PE01/HIFRDY (io), M5 PC02/MII_RXD2 (io), M6 PC18/LNKSTA (io), M7 PC05/MII_TXD1 (io), M9 PC19/EXOUT (io), M10 MD5 (in), N1 PE02/HIFDREQ (io), N2 PE00/HIFEBL (io), N3 PC09/RX_ER (io), N4 PC08/RX_DV (io), N5 PC10/RX_CLK (io), N6 PC11/TX_ER (io), N7 PC06/MII_TXD2 (io), N9 ~{TESTOUT} (out), N12 ~{ASEMD} (in), N15 MD1 (in), P1 PC17/MDC (io), P2 PC16/MDIO (io), P3 PC15/CRS (io), P4 PC01/MII_RXD1 (io), P6 PC04/MII_TXD0 (io), P7 PC12/TX_EN (io), P8 PC20/WOL (io), P9 MD3 (in), P12 NMI (in), P13 EXTAL (in), R3 PC00/MII_RXD0 (io), R4 PC03/MII_RXD3 (io), R6 PC13/TX_CLK (io), R7 PC07/MII_TXD3 (io), R8 PC14/COL (io), R9 CK_PHY (out), R12 ~{RES} (in), R13 ~{TESTMD} (in), R14 XTAL (out), R15 MD0 (in)
part B pins: M11 ~{TRST} (in), N10 TCK (in), N11 TDO (out), P11 TMS (in), R11 TDI (in)
part C pins: A1 VCCQ (power), A4 VCC (power), A7 VCCQ (power), A15 VCCQ (power), B11 VCC (power), D15 VCC (power), E2 VCC (power), F15 VCCQ (power), G12 VCC (power), H4 VCC (power), J12 VCC (power), K1 VCCQ (power), M1 VCC (power), M8 VCC (power), M12 VCCQ (power), M13 VCC (PLL2) (power), M15 VCCQ (power), N13 VCC (PLL1) (power), P5 VCC (power), R1 VCCQ (power), R10 VCCQ (power)
part D pins: A11 VSS (power), A14 VSSQ (power), B1 VSSQ (power), B4 VSS (power), B7 VSSQ (power), D14 VSS (power), E1 VSS (power), F14 VSSQ (power), G13 VSS (power), H3 VSS (power), J13 VSS (power), K2 VSSQ (power), M2 VSS (power), M14 VSSQ (power), N8 VSS (power), N14 VSS (PLL2) (power), P10 VSSQ (power), P14 VSSQ (power), P15 VSS (PLL1) (power), R2 VSSQ (power), R5 VSS (power)

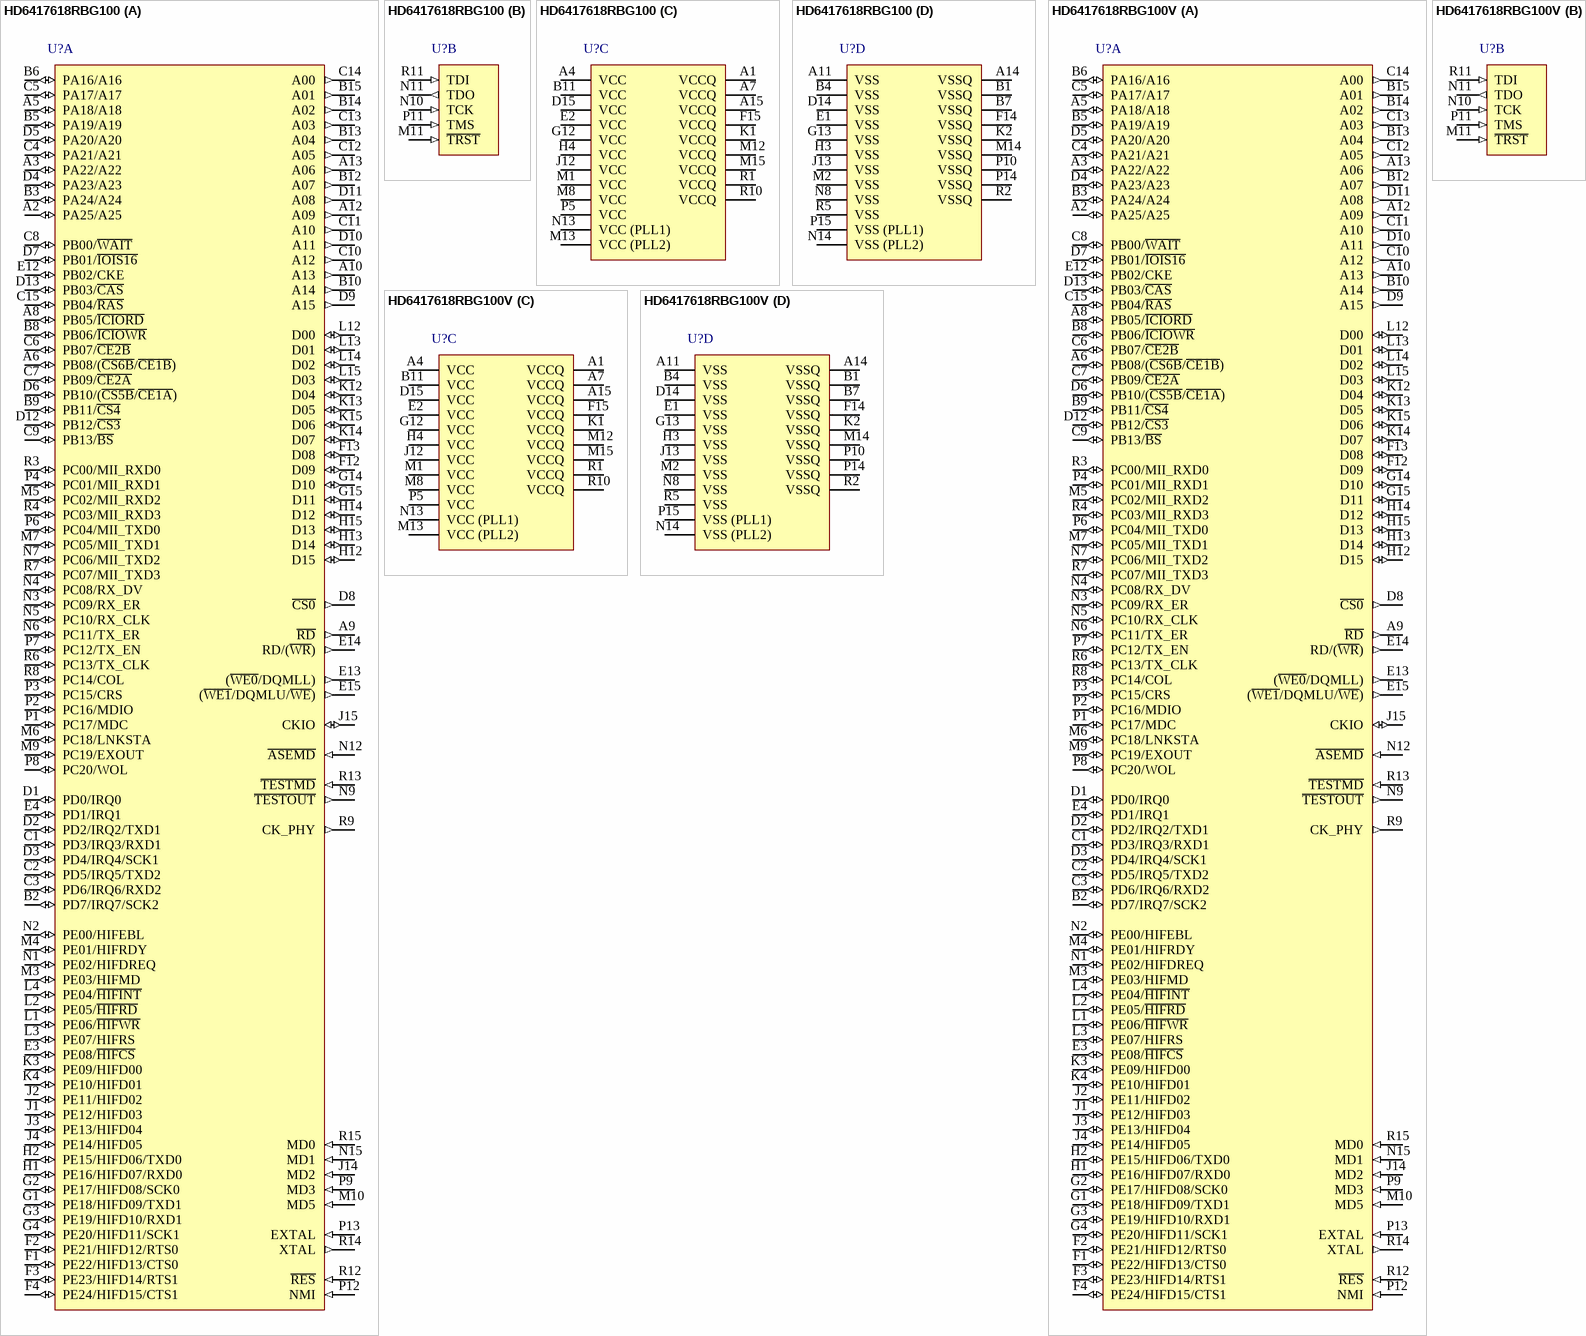
[diagram p23: symbols HD6417618RBG100 to HD6417618RBG100V]

## HD6417618RBG100
designator U?
32-Bit RISC Microcomputer, SH-Ether Series, SH-2 core, 100MHz, 4K RAM, PLBG0176GA-A (BP-176) Package, -20 to 75°C; Published: 28-Aug-2009; DatasheetVersion: Rev.6.00, Jun-2007; PackageVersion: Apr-2006; PackageReference: PLBG0176GA-A; Publisher: Altium Limited; PackageDescription: 176-Ball Plastic Low Profile Fine-Pitch BGA, 13 x 13 mm Body, 0.8 mm Pitch; Supplier 1: Digi-Key; Supplier Part Number 1: HD6417618RBG100-ND; Code_JEITA: P-LFBGA176-13x13-0.80; ComponentLink1Description: Manufacturer Link; ComponentLink1URL: http://www.renesas.com/fmwk.jsp?cnt=sh7618_root.jsp&fp=/products/mpumcu/superh_family/shether_series/sh7618_group/; ComponentLink2Description: Datasheet; ComponentLink2URL: http://documentation.renesas.com/eng/products/mpumcu/rej09b0131_sh7618.pdf; ComponentLink3Description: Packaging Specification; ComponentLink3URL: http://sg.renesas.com/media/products/common_info/package/pdf/ic/code/plbg0176ga_a.pdf
footprint PLBG0176GA-A (BGA, 176-Leads, Body 13x13mm, Pitch 0.8mm)
part A pins: A2 PA25/A25 (io), A3 PA22/A22 (io), A5 PA18/A18 (io), A6 PB08/(~{CS6B}/~{CE1B}) (io), A8 PB05/~{ICIORD} (io), A9 ~{RD} (out), A10 A13 (out), A12 A09 (out), A13 A06 (out), B2 PD7/IRQ7/SCK2 (io), B3 PA24/A24 (io), B5 PA19/A19 (io), B6 PA16/A16 (io), B8 PB06/~{ICIOWR} (io), B9 PB11/~{CS4} (io), B10 A14 (out), B12 A07 (out), B13 A04 (out), B14 A02 (out), B15 A01 (out), C1 PD3/IRQ3/RXD1 (io), C2 PD5/IRQ5/TXD2 (io), C3 PD6/IRQ6/RXD2 (io), C4 PA21/A21 (io), C5 PA17/A17 (io), C6 PB07/~{CE2B} (io), C7 PB09/~{CE2A} (io), C8 PB00/~{WAIT} (io), C9 PB13/~{BS} (io), C10 A12 (out), C11 A10 (out), C12 A05 (out), C13 A03 (out), C14 A00 (out), C15 PB04/~{RAS} (io), D1 PD0/IRQ0 (io), D2 PD2/IRQ2/TXD1 (io), D3 PD4/IRQ4/SCK1 (io), D4 PA23/A23 (io), D5 PA20/A20 (io), D6 PB10/(~{CS5B}/~{CE1A}) (io), D7 PB01/~{IOIS16} (io), D8 ~{CS0} (out), D9 A15 (out), D10 A11 (out), D11 A08 (out), D12 PB12/~{CS3} (io), D13 PB03/~{CAS} (io), E3 PE08/~{HIFCS} (io), E4 PD1/IRQ1 (io), E12 PB02/CKE (io), E13 (~{WE0}/DQMLL) (out), E14 RD/(~{WR}) (out), E15 (~{WE1}/DQMLU/~{WE}) (out), F1 PE22/HIFD13/CTS0 (io), F2 PE21/HIFD12/RTS0 (io), F3 PE23/HIFD14/RTS1 (io), F4 PE24/HIFD15/CTS1 (io), F12 D09 (io), F13 D08 (io), G1 PE18/HIFD09/TXD1 (io), G2 PE17/HIFD08/SCK0 (io), G3 PE19/HIFD10/RXD1 (io), G4 PE20/HIFD11/SCK1 (io), G14 D10 (io), G15 D11 (io), H1 PE16/HIFD07/RXD0 (io), H2 PE15/HIFD06/TXD0 (io), H12 D15 (io), H13 D14 (io), H14 D12 (io), H15 D13 (io), J1 PE12/HIFD03 (io), J2 PE11/HIFD02 (io), J3 PE13/HIFD04 (io), J4 PE14/HIFD05 (io), J14 MD2 (in), J15 CKIO (io), K3 PE09/HIFD00 (io), K4 PE10/HIFD01 (io), K12 D04 (io), K13 D05 (io), K14 D07 (io), K15 D06 (io), L1 PE06/~{HIFWR} (io), L2 PE05/~{HIFRD} (io), L3 PE07/HIFRS (io), L4 PE04/~{HIFINT} (io), L12 D00 (io), L13 D01 (io), L14 D02 (io), L15 D03 (io), M3 PE03/HIFMD (io), M4 PE01/HIFRDY (io), M5 PC02/MII_RXD2 (io), M6 PC18/LNKSTA (io), M7 PC05/MII_TXD1 (io), M9 PC19/EXOUT (io), M10 MD5 (in), N1 PE02/HIFDREQ (io), N2 PE00/HIFEBL (io), N3 PC09/RX_ER (io), N4 PC08/RX_DV (io), N5 PC10/RX_CLK (io), N6 PC11/TX_ER (io), N7 PC06/MII_TXD2 (io), N9 ~{TESTOUT} (out), N12 ~{ASEMD} (in), N15 MD1 (in), P1 PC17/MDC (io), P2 PC16/MDIO (io), P3 PC15/CRS (io), P4 PC01/MII_RXD1 (io), P6 PC04/MII_TXD0 (io), P7 PC12/TX_EN (io), P8 PC20/WOL (io), P9 MD3 (in), P12 NMI (in), P13 EXTAL (in), R3 PC00/MII_RXD0 (io), R4 PC03/MII_RXD3 (io), R6 PC13/TX_CLK (io), R7 PC07/MII_TXD3 (io), R8 PC14/COL (io), R9 CK_PHY (out), R12 ~{RES} (in), R13 ~{TESTMD} (in), R14 XTAL (out), R15 MD0 (in)
part B pins: M11 ~{TRST} (in), N10 TCK (in), N11 TDO (out), P11 TMS (in), R11 TDI (in)
part C pins: A1 VCCQ (power), A4 VCC (power), A7 VCCQ (power), A15 VCCQ (power), B11 VCC (power), D15 VCC (power), E2 VCC (power), F15 VCCQ (power), G12 VCC (power), H4 VCC (power), J12 VCC (power), K1 VCCQ (power), M1 VCC (power), M8 VCC (power), M12 VCCQ (power), M13 VCC (PLL2) (power), M15 VCCQ (power), N13 VCC (PLL1) (power), P5 VCC (power), R1 VCCQ (power), R10 VCCQ (power)
part D pins: A11 VSS (power), A14 VSSQ (power), B1 VSSQ (power), B4 VSS (power), B7 VSSQ (power), D14 VSS (power), E1 VSS (power), F14 VSSQ (power), G13 VSS (power), H3 VSS (power), J13 VSS (power), K2 VSSQ (power), M2 VSS (power), M14 VSSQ (power), N8 VSS (power), N14 VSS (PLL2) (power), P10 VSSQ (power), P14 VSSQ (power), P15 VSS (PLL1) (power), R2 VSSQ (power), R5 VSS (power)

## HD6417618RBG100V
designator U?
32-Bit RISC Microcomputer, SH-Ether Series, SH-2 core, 100MHz, 4K RAM, PLBG0176GA-A (BP-176V) Package, -20 to 75°C; Published: 28-Aug-2009; DatasheetVersion: Rev.6.00, Jun-2007; PackageVersion: Apr-2006; PackageReference: PLBG0176GA-A; Publisher: Altium Limited; PackageDescription: 176-Ball Plastic Low Profile Fine-Pitch BGA, 13 x 13 mm Body, 0.8 mm Pitch; Code_JEITA: P-LFBGA176-13x13-0.80; ComponentLink1Description: Manufacturer Link; ComponentLink1URL: http://www.renesas.com/fmwk.jsp?cnt=sh7618_root.jsp&fp=/products/mpumcu/superh_family/shether_series/sh7618_group/; ComponentLink2Description: Datasheet; ComponentLink2URL: http://documentation.renesas.com/eng/products/mpumcu/rej09b0131_sh7618.pdf; ComponentLink3Description: Packaging Specification; ComponentLink3URL: http://sg.renesas.com/media/products/common_info/package/pdf/ic/code/plbg0176ga_a.pdf
footprint PLBG0176GA-A (BGA, 176-Leads, Body 13x13mm, Pitch 0.8mm)
part A pins: A2 PA25/A25 (io), A3 PA22/A22 (io), A5 PA18/A18 (io), A6 PB08/(~{CS6B}/~{CE1B}) (io), A8 PB05/~{ICIORD} (io), A9 ~{RD} (out), A10 A13 (out), A12 A09 (out), A13 A06 (out), B2 PD7/IRQ7/SCK2 (io), B3 PA24/A24 (io), B5 PA19/A19 (io), B6 PA16/A16 (io), B8 PB06/~{ICIOWR} (io), B9 PB11/~{CS4} (io), B10 A14 (out), B12 A07 (out), B13 A04 (out), B14 A02 (out), B15 A01 (out), C1 PD3/IRQ3/RXD1 (io), C2 PD5/IRQ5/TXD2 (io), C3 PD6/IRQ6/RXD2 (io), C4 PA21/A21 (io), C5 PA17/A17 (io), C6 PB07/~{CE2B} (io), C7 PB09/~{CE2A} (io), C8 PB00/~{WAIT} (io), C9 PB13/~{BS} (io), C10 A12 (out), C11 A10 (out), C12 A05 (out), C13 A03 (out), C14 A00 (out), C15 PB04/~{RAS} (io), D1 PD0/IRQ0 (io), D2 PD2/IRQ2/TXD1 (io), D3 PD4/IRQ4/SCK1 (io), D4 PA23/A23 (io), D5 PA20/A20 (io), D6 PB10/(~{CS5B}/~{CE1A}) (io), D7 PB01/~{IOIS16} (io), D8 ~{CS0} (out), D9 A15 (out), D10 A11 (out), D11 A08 (out), D12 PB12/~{CS3} (io), D13 PB03/~{CAS} (io), E3 PE08/~{HIFCS} (io), E4 PD1/IRQ1 (io), E12 PB02/CKE (io), E13 (~{WE0}/DQMLL) (out), E14 RD/(~{WR}) (out), E15 (~{WE1}/DQMLU/~{WE}) (out), F1 PE22/HIFD13/CTS0 (io), F2 PE21/HIFD12/RTS0 (io), F3 PE23/HIFD14/RTS1 (io), F4 PE24/HIFD15/CTS1 (io), F12 D09 (io), F13 D08 (io), G1 PE18/HIFD09/TXD1 (io), G2 PE17/HIFD08/SCK0 (io), G3 PE19/HIFD10/RXD1 (io), G4 PE20/HIFD11/SCK1 (io), G14 D10 (io), G15 D11 (io), H1 PE16/HIFD07/RXD0 (io), H2 PE15/HIFD06/TXD0 (io), H12 D15 (io), H13 D14 (io), H14 D12 (io), H15 D13 (io), J1 PE12/HIFD03 (io), J2 PE11/HIFD02 (io), J3 PE13/HIFD04 (io), J4 PE14/HIFD05 (io), J14 MD2 (in), J15 CKIO (io), K3 PE09/HIFD00 (io), K4 PE10/HIFD01 (io), K12 D04 (io), K13 D05 (io), K14 D07 (io), K15 D06 (io), L1 PE06/~{HIFWR} (io), L2 PE05/~{HIFRD} (io), L3 PE07/HIFRS (io), L4 PE04/~{HIFINT} (io), L12 D00 (io), L13 D01 (io), L14 D02 (io), L15 D03 (io), M3 PE03/HIFMD (io), M4 PE01/HIFRDY (io), M5 PC02/MII_RXD2 (io), M6 PC18/LNKSTA (io), M7 PC05/MII_TXD1 (io), M9 PC19/EXOUT (io), M10 MD5 (in), N1 PE02/HIFDREQ (io), N2 PE00/HIFEBL (io), N3 PC09/RX_ER (io), N4 PC08/RX_DV (io), N5 PC10/RX_CLK (io), N6 PC11/TX_ER (io), N7 PC06/MII_TXD2 (io), N9 ~{TESTOUT} (out), N12 ~{ASEMD} (in), N15 MD1 (in), P1 PC17/MDC (io), P2 PC16/MDIO (io), P3 PC15/CRS (io), P4 PC01/MII_RXD1 (io), P6 PC04/MII_TXD0 (io), P7 PC12/TX_EN (io), P8 PC20/WOL (io), P9 MD3 (in), P12 NMI (in), P13 EXTAL (in), R3 PC00/MII_RXD0 (io), R4 PC03/MII_RXD3 (io), R6 PC13/TX_CLK (io), R7 PC07/MII_TXD3 (io), R8 PC14/COL (io), R9 CK_PHY (out), R12 ~{RES} (in), R13 ~{TESTMD} (in), R14 XTAL (out), R15 MD0 (in)
part B pins: M11 ~{TRST} (in), N10 TCK (in), N11 TDO (out), P11 TMS (in), R11 TDI (in)
part C pins: A1 VCCQ (power), A4 VCC (power), A7 VCCQ (power), A15 VCCQ (power), B11 VCC (power), D15 VCC (power), E2 VCC (power), F15 VCCQ (power), G12 VCC (power), H4 VCC (power), J12 VCC (power), K1 VCCQ (power), M1 VCC (power), M8 VCC (power), M12 VCCQ (power), M13 VCC (PLL2) (power), M15 VCCQ (power), N13 VCC (PLL1) (power), P5 VCC (power), R1 VCCQ (power), R10 VCCQ (power)
part D pins: A11 VSS (power), A14 VSSQ (power), B1 VSSQ (power), B4 VSS (power), B7 VSSQ (power), D14 VSS (power), E1 VSS (power), F14 VSSQ (power), G13 VSS (power), H3 VSS (power), J13 VSS (power), K2 VSSQ (power), M2 VSS (power), M14 VSSQ (power), N8 VSS (power), N14 VSS (PLL2) (power), P10 VSSQ (power), P14 VSSQ (power), P15 VSS (PLL1) (power), R2 VSSQ (power), R5 VSS (power)

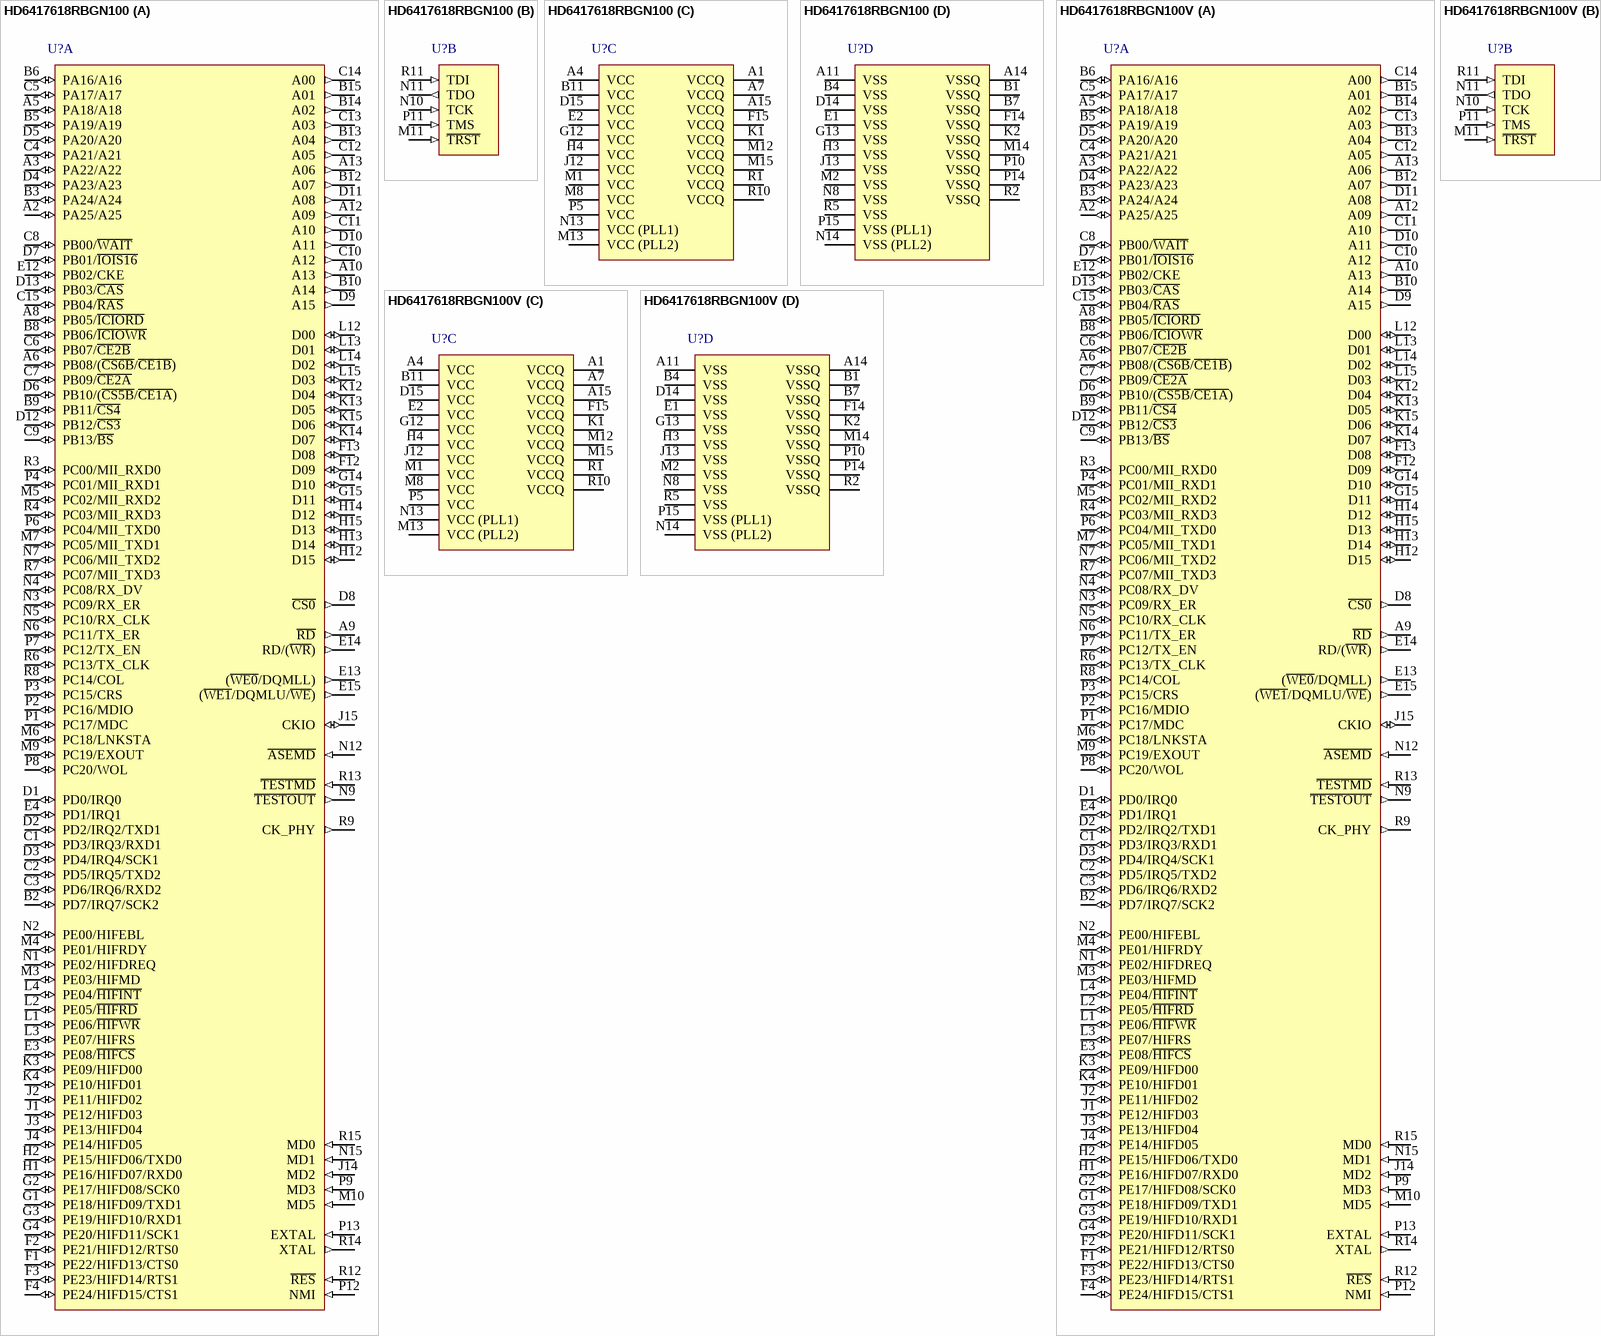
[diagram p24: symbols HD6417618RBGN100 to HD6417618RBGN100V]

## HD6417618RBGN100
designator U?
32-Bit RISC Microcomputer, SH-Ether Series, SH-2 core, 100MHz, 4K RAM, PLBG0176GA-A (BP-176) Package, -20 to 75°C; Published: 28-Aug-2009; DatasheetVersion: Rev.6.00, Jun-2007; PackageVersion: Apr-2006; PackageReference: PLBG0176GA-A; Publisher: Altium Limited; PackageDescription: 176-Ball Plastic Low Profile Fine-Pitch BGA, 13 x 13 mm Body, 0.8 mm Pitch; Code_JEITA: P-LFBGA176-13x13-0.80; ComponentLink1Description: Manufacturer Link; ComponentLink1URL: http://www.renesas.com/fmwk.jsp?cnt=sh7618_root.jsp&fp=/products/mpumcu/superh_family/shether_series/sh7618_group/; ComponentLink2Description: Datasheet; ComponentLink2URL: http://documentation.renesas.com/eng/products/mpumcu/rej09b0131_sh7618.pdf; ComponentLink3Description: Packaging Specification; ComponentLink3URL: http://sg.renesas.com/media/products/common_info/package/pdf/ic/code/plbg0176ga_a.pdf
footprint PLBG0176GA-A (BGA, 176-Leads, Body 13x13mm, Pitch 0.8mm)
part A pins: A2 PA25/A25 (io), A3 PA22/A22 (io), A5 PA18/A18 (io), A6 PB08/(~{CS6B}/~{CE1B}) (io), A8 PB05/~{ICIORD} (io), A9 ~{RD} (out), A10 A13 (out), A12 A09 (out), A13 A06 (out), B2 PD7/IRQ7/SCK2 (io), B3 PA24/A24 (io), B5 PA19/A19 (io), B6 PA16/A16 (io), B8 PB06/~{ICIOWR} (io), B9 PB11/~{CS4} (io), B10 A14 (out), B12 A07 (out), B13 A04 (out), B14 A02 (out), B15 A01 (out), C1 PD3/IRQ3/RXD1 (io), C2 PD5/IRQ5/TXD2 (io), C3 PD6/IRQ6/RXD2 (io), C4 PA21/A21 (io), C5 PA17/A17 (io), C6 PB07/~{CE2B} (io), C7 PB09/~{CE2A} (io), C8 PB00/~{WAIT} (io), C9 PB13/~{BS} (io), C10 A12 (out), C11 A10 (out), C12 A05 (out), C13 A03 (out), C14 A00 (out), C15 PB04/~{RAS} (io), D1 PD0/IRQ0 (io), D2 PD2/IRQ2/TXD1 (io), D3 PD4/IRQ4/SCK1 (io), D4 PA23/A23 (io), D5 PA20/A20 (io), D6 PB10/(~{CS5B}/~{CE1A}) (io), D7 PB01/~{IOIS16} (io), D8 ~{CS0} (out), D9 A15 (out), D10 A11 (out), D11 A08 (out), D12 PB12/~{CS3} (io), D13 PB03/~{CAS} (io), E3 PE08/~{HIFCS} (io), E4 PD1/IRQ1 (io), E12 PB02/CKE (io), E13 (~{WE0}/DQMLL) (out), E14 RD/(~{WR}) (out), E15 (~{WE1}/DQMLU/~{WE}) (out), F1 PE22/HIFD13/CTS0 (io), F2 PE21/HIFD12/RTS0 (io), F3 PE23/HIFD14/RTS1 (io), F4 PE24/HIFD15/CTS1 (io), F12 D09 (io), F13 D08 (io), G1 PE18/HIFD09/TXD1 (io), G2 PE17/HIFD08/SCK0 (io), G3 PE19/HIFD10/RXD1 (io), G4 PE20/HIFD11/SCK1 (io), G14 D10 (io), G15 D11 (io), H1 PE16/HIFD07/RXD0 (io), H2 PE15/HIFD06/TXD0 (io), H12 D15 (io), H13 D14 (io), H14 D12 (io), H15 D13 (io), J1 PE12/HIFD03 (io), J2 PE11/HIFD02 (io), J3 PE13/HIFD04 (io), J4 PE14/HIFD05 (io), J14 MD2 (in), J15 CKIO (io), K3 PE09/HIFD00 (io), K4 PE10/HIFD01 (io), K12 D04 (io), K13 D05 (io), K14 D07 (io), K15 D06 (io), L1 PE06/~{HIFWR} (io), L2 PE05/~{HIFRD} (io), L3 PE07/HIFRS (io), L4 PE04/~{HIFINT} (io), L12 D00 (io), L13 D01 (io), L14 D02 (io), L15 D03 (io), M3 PE03/HIFMD (io), M4 PE01/HIFRDY (io), M5 PC02/MII_RXD2 (io), M6 PC18/LNKSTA (io), M7 PC05/MII_TXD1 (io), M9 PC19/EXOUT (io), M10 MD5 (in), N1 PE02/HIFDREQ (io), N2 PE00/HIFEBL (io), N3 PC09/RX_ER (io), N4 PC08/RX_DV (io), N5 PC10/RX_CLK (io), N6 PC11/TX_ER (io), N7 PC06/MII_TXD2 (io), N9 ~{TESTOUT} (out), N12 ~{ASEMD} (in), N15 MD1 (in), P1 PC17/MDC (io), P2 PC16/MDIO (io), P3 PC15/CRS (io), P4 PC01/MII_RXD1 (io), P6 PC04/MII_TXD0 (io), P7 PC12/TX_EN (io), P8 PC20/WOL (io), P9 MD3 (in), P12 NMI (in), P13 EXTAL (in), R3 PC00/MII_RXD0 (io), R4 PC03/MII_RXD3 (io), R6 PC13/TX_CLK (io), R7 PC07/MII_TXD3 (io), R8 PC14/COL (io), R9 CK_PHY (out), R12 ~{RES} (in), R13 ~{TESTMD} (in), R14 XTAL (out), R15 MD0 (in)
part B pins: M11 ~{TRST} (in), N10 TCK (in), N11 TDO (out), P11 TMS (in), R11 TDI (in)
part C pins: A1 VCCQ (power), A4 VCC (power), A7 VCCQ (power), A15 VCCQ (power), B11 VCC (power), D15 VCC (power), E2 VCC (power), F15 VCCQ (power), G12 VCC (power), H4 VCC (power), J12 VCC (power), K1 VCCQ (power), M1 VCC (power), M8 VCC (power), M12 VCCQ (power), M13 VCC (PLL2) (power), M15 VCCQ (power), N13 VCC (PLL1) (power), P5 VCC (power), R1 VCCQ (power), R10 VCCQ (power)
part D pins: A11 VSS (power), A14 VSSQ (power), B1 VSSQ (power), B4 VSS (power), B7 VSSQ (power), D14 VSS (power), E1 VSS (power), F14 VSSQ (power), G13 VSS (power), H3 VSS (power), J13 VSS (power), K2 VSSQ (power), M2 VSS (power), M14 VSSQ (power), N8 VSS (power), N14 VSS (PLL2) (power), P10 VSSQ (power), P14 VSSQ (power), P15 VSS (PLL1) (power), R2 VSSQ (power), R5 VSS (power)

## HD6417618RBGN100V
designator U?
32-Bit RISC Microcomputer, SH-Ether Series, SH-2 core, 100MHz, 4K RAM, PLBG0176GA-A (BP-176V) Package, -20 to 75°C; Published: 28-Aug-2009; DatasheetVersion: Rev.6.00, Jun-2007; PackageVersion: Apr-2006; PackageReference: PLBG0176GA-A; Publisher: Altium Limited; PackageDescription: 176-Ball Plastic Low Profile Fine-Pitch BGA, 13 x 13 mm Body, 0.8 mm Pitch; Code_JEITA: P-LFBGA176-13x13-0.80; ComponentLink1Description: Manufacturer Link; ComponentLink1URL: http://www.renesas.com/fmwk.jsp?cnt=sh7618_root.jsp&fp=/products/mpumcu/superh_family/shether_series/sh7618_group/; ComponentLink2Description: Datasheet; ComponentLink2URL: http://documentation.renesas.com/eng/products/mpumcu/rej09b0131_sh7618.pdf; ComponentLink3Description: Packaging Specification; ComponentLink3URL: http://sg.renesas.com/media/products/common_info/package/pdf/ic/code/plbg0176ga_a.pdf
footprint PLBG0176GA-A (BGA, 176-Leads, Body 13x13mm, Pitch 0.8mm)
part A pins: A2 PA25/A25 (io), A3 PA22/A22 (io), A5 PA18/A18 (io), A6 PB08/(~{CS6B}/~{CE1B}) (io), A8 PB05/~{ICIORD} (io), A9 ~{RD} (out), A10 A13 (out), A12 A09 (out), A13 A06 (out), B2 PD7/IRQ7/SCK2 (io), B3 PA24/A24 (io), B5 PA19/A19 (io), B6 PA16/A16 (io), B8 PB06/~{ICIOWR} (io), B9 PB11/~{CS4} (io), B10 A14 (out), B12 A07 (out), B13 A04 (out), B14 A02 (out), B15 A01 (out), C1 PD3/IRQ3/RXD1 (io), C2 PD5/IRQ5/TXD2 (io), C3 PD6/IRQ6/RXD2 (io), C4 PA21/A21 (io), C5 PA17/A17 (io), C6 PB07/~{CE2B} (io), C7 PB09/~{CE2A} (io), C8 PB00/~{WAIT} (io), C9 PB13/~{BS} (io), C10 A12 (out), C11 A10 (out), C12 A05 (out), C13 A03 (out), C14 A00 (out), C15 PB04/~{RAS} (io), D1 PD0/IRQ0 (io), D2 PD2/IRQ2/TXD1 (io), D3 PD4/IRQ4/SCK1 (io), D4 PA23/A23 (io), D5 PA20/A20 (io), D6 PB10/(~{CS5B}/~{CE1A}) (io), D7 PB01/~{IOIS16} (io), D8 ~{CS0} (out), D9 A15 (out), D10 A11 (out), D11 A08 (out), D12 PB12/~{CS3} (io), D13 PB03/~{CAS} (io), E3 PE08/~{HIFCS} (io), E4 PD1/IRQ1 (io), E12 PB02/CKE (io), E13 (~{WE0}/DQMLL) (out), E14 RD/(~{WR}) (out), E15 (~{WE1}/DQMLU/~{WE}) (out), F1 PE22/HIFD13/CTS0 (io), F2 PE21/HIFD12/RTS0 (io), F3 PE23/HIFD14/RTS1 (io), F4 PE24/HIFD15/CTS1 (io), F12 D09 (io), F13 D08 (io), G1 PE18/HIFD09/TXD1 (io), G2 PE17/HIFD08/SCK0 (io), G3 PE19/HIFD10/RXD1 (io), G4 PE20/HIFD11/SCK1 (io), G14 D10 (io), G15 D11 (io), H1 PE16/HIFD07/RXD0 (io), H2 PE15/HIFD06/TXD0 (io), H12 D15 (io), H13 D14 (io), H14 D12 (io), H15 D13 (io), J1 PE12/HIFD03 (io), J2 PE11/HIFD02 (io), J3 PE13/HIFD04 (io), J4 PE14/HIFD05 (io), J14 MD2 (in), J15 CKIO (io), K3 PE09/HIFD00 (io), K4 PE10/HIFD01 (io), K12 D04 (io), K13 D05 (io), K14 D07 (io), K15 D06 (io), L1 PE06/~{HIFWR} (io), L2 PE05/~{HIFRD} (io), L3 PE07/HIFRS (io), L4 PE04/~{HIFINT} (io), L12 D00 (io), L13 D01 (io), L14 D02 (io), L15 D03 (io), M3 PE03/HIFMD (io), M4 PE01/HIFRDY (io), M5 PC02/MII_RXD2 (io), M6 PC18/LNKSTA (io), M7 PC05/MII_TXD1 (io), M9 PC19/EXOUT (io), M10 MD5 (in), N1 PE02/HIFDREQ (io), N2 PE00/HIFEBL (io), N3 PC09/RX_ER (io), N4 PC08/RX_DV (io), N5 PC10/RX_CLK (io), N6 PC11/TX_ER (io), N7 PC06/MII_TXD2 (io), N9 ~{TESTOUT} (out), N12 ~{ASEMD} (in), N15 MD1 (in), P1 PC17/MDC (io), P2 PC16/MDIO (io), P3 PC15/CRS (io), P4 PC01/MII_RXD1 (io), P6 PC04/MII_TXD0 (io), P7 PC12/TX_EN (io), P8 PC20/WOL (io), P9 MD3 (in), P12 NMI (in), P13 EXTAL (in), R3 PC00/MII_RXD0 (io), R4 PC03/MII_RXD3 (io), R6 PC13/TX_CLK (io), R7 PC07/MII_TXD3 (io), R8 PC14/COL (io), R9 CK_PHY (out), R12 ~{RES} (in), R13 ~{TESTMD} (in), R14 XTAL (out), R15 MD0 (in)
part B pins: M11 ~{TRST} (in), N10 TCK (in), N11 TDO (out), P11 TMS (in), R11 TDI (in)
part C pins: A1 VCCQ (power), A4 VCC (power), A7 VCCQ (power), A15 VCCQ (power), B11 VCC (power), D15 VCC (power), E2 VCC (power), F15 VCCQ (power), G12 VCC (power), H4 VCC (power), J12 VCC (power), K1 VCCQ (power), M1 VCC (power), M8 VCC (power), M12 VCCQ (power), M13 VCC (PLL2) (power), M15 VCCQ (power), N13 VCC (PLL1) (power), P5 VCC (power), R1 VCCQ (power), R10 VCCQ (power)
part D pins: A11 VSS (power), A14 VSSQ (power), B1 VSSQ (power), B4 VSS (power), B7 VSSQ (power), D14 VSS (power), E1 VSS (power), F14 VSSQ (power), G13 VSS (power), H3 VSS (power), J13 VSS (power), K2 VSSQ (power), M2 VSS (power), M14 VSSQ (power), N8 VSS (power), N14 VSS (PLL2) (power), P10 VSSQ (power), P14 VSSQ (power), P15 VSS (PLL1) (power), R2 VSSQ (power), R5 VSS (power)

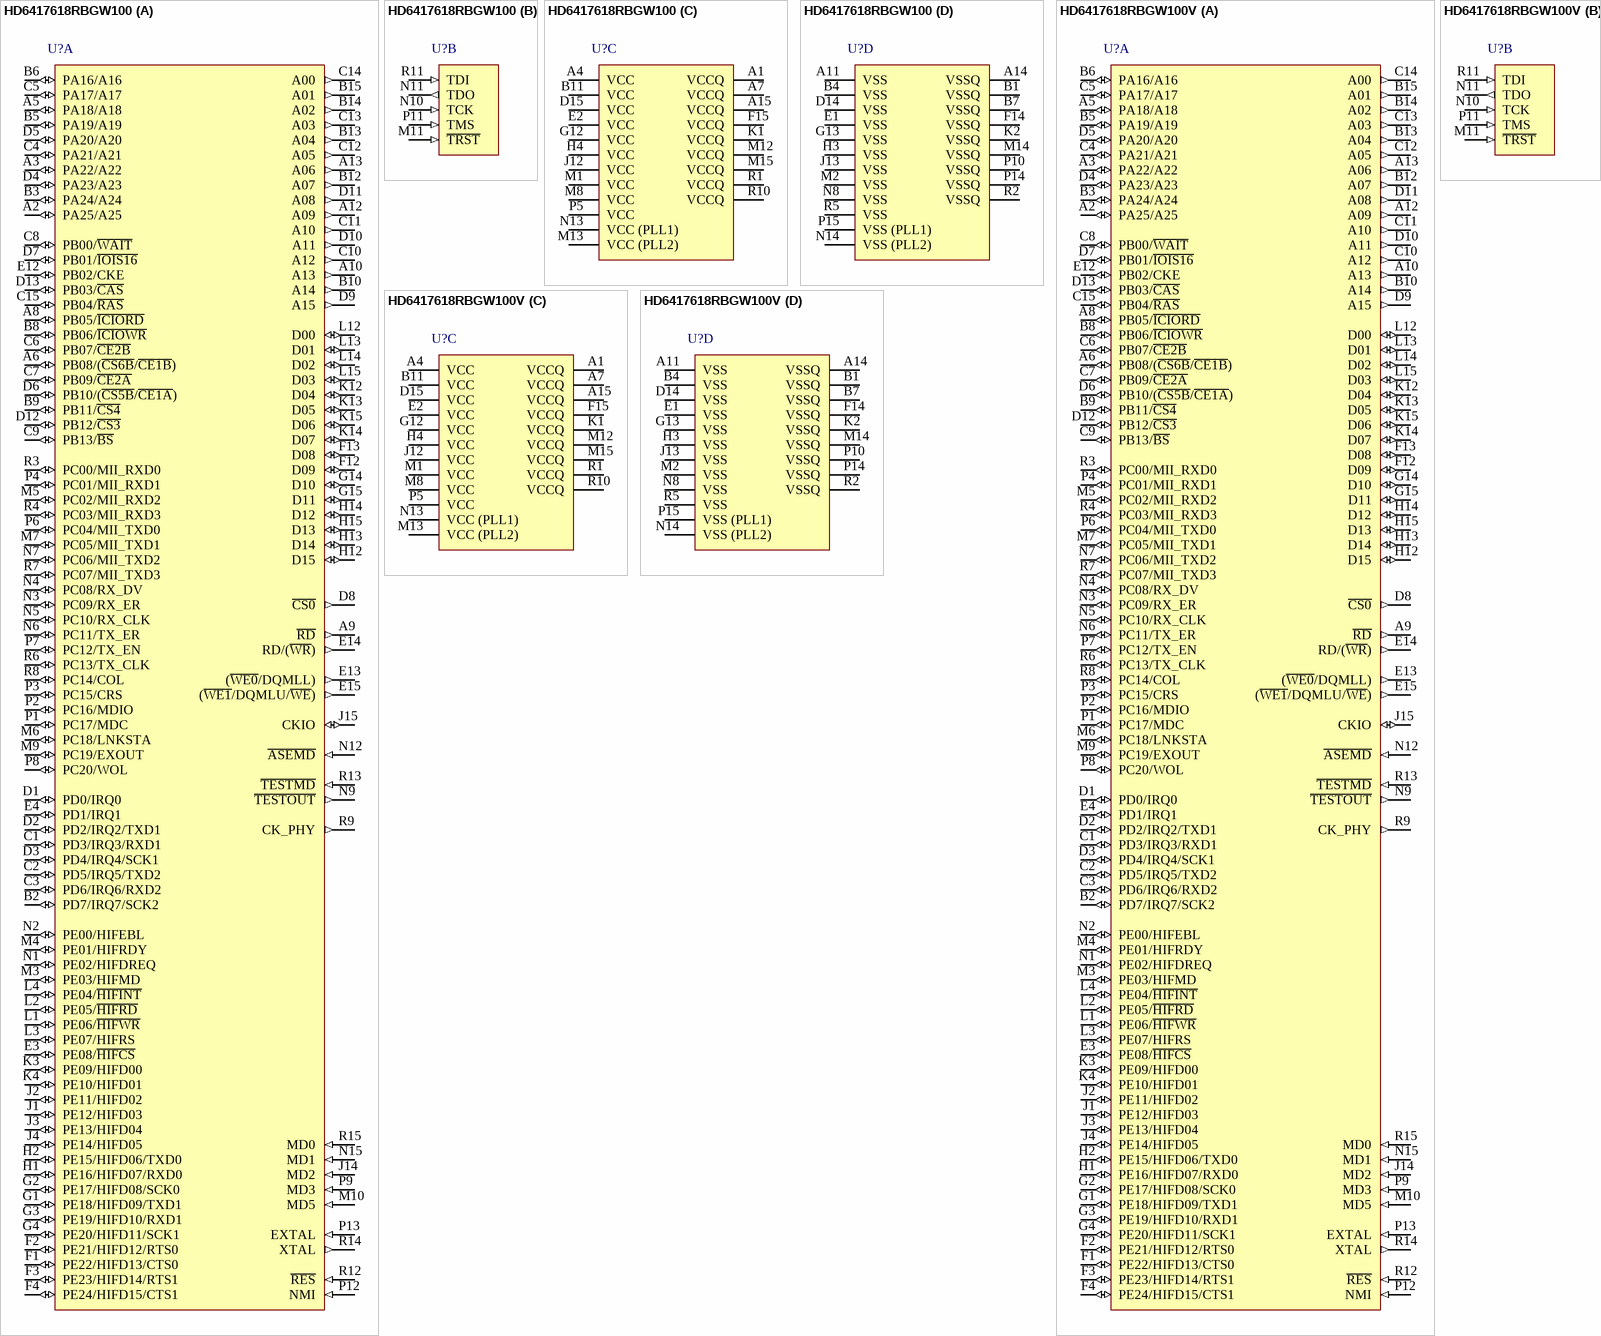
[diagram p25: symbols HD6417618RBGW100 to HD6417618RBGW100V]